# Altium schematic symbol library TI Stellaris.SchLib: 293 symbols (part 1 of 7)
Pins are listed as number, name and electrical type; pins without a type are passive.

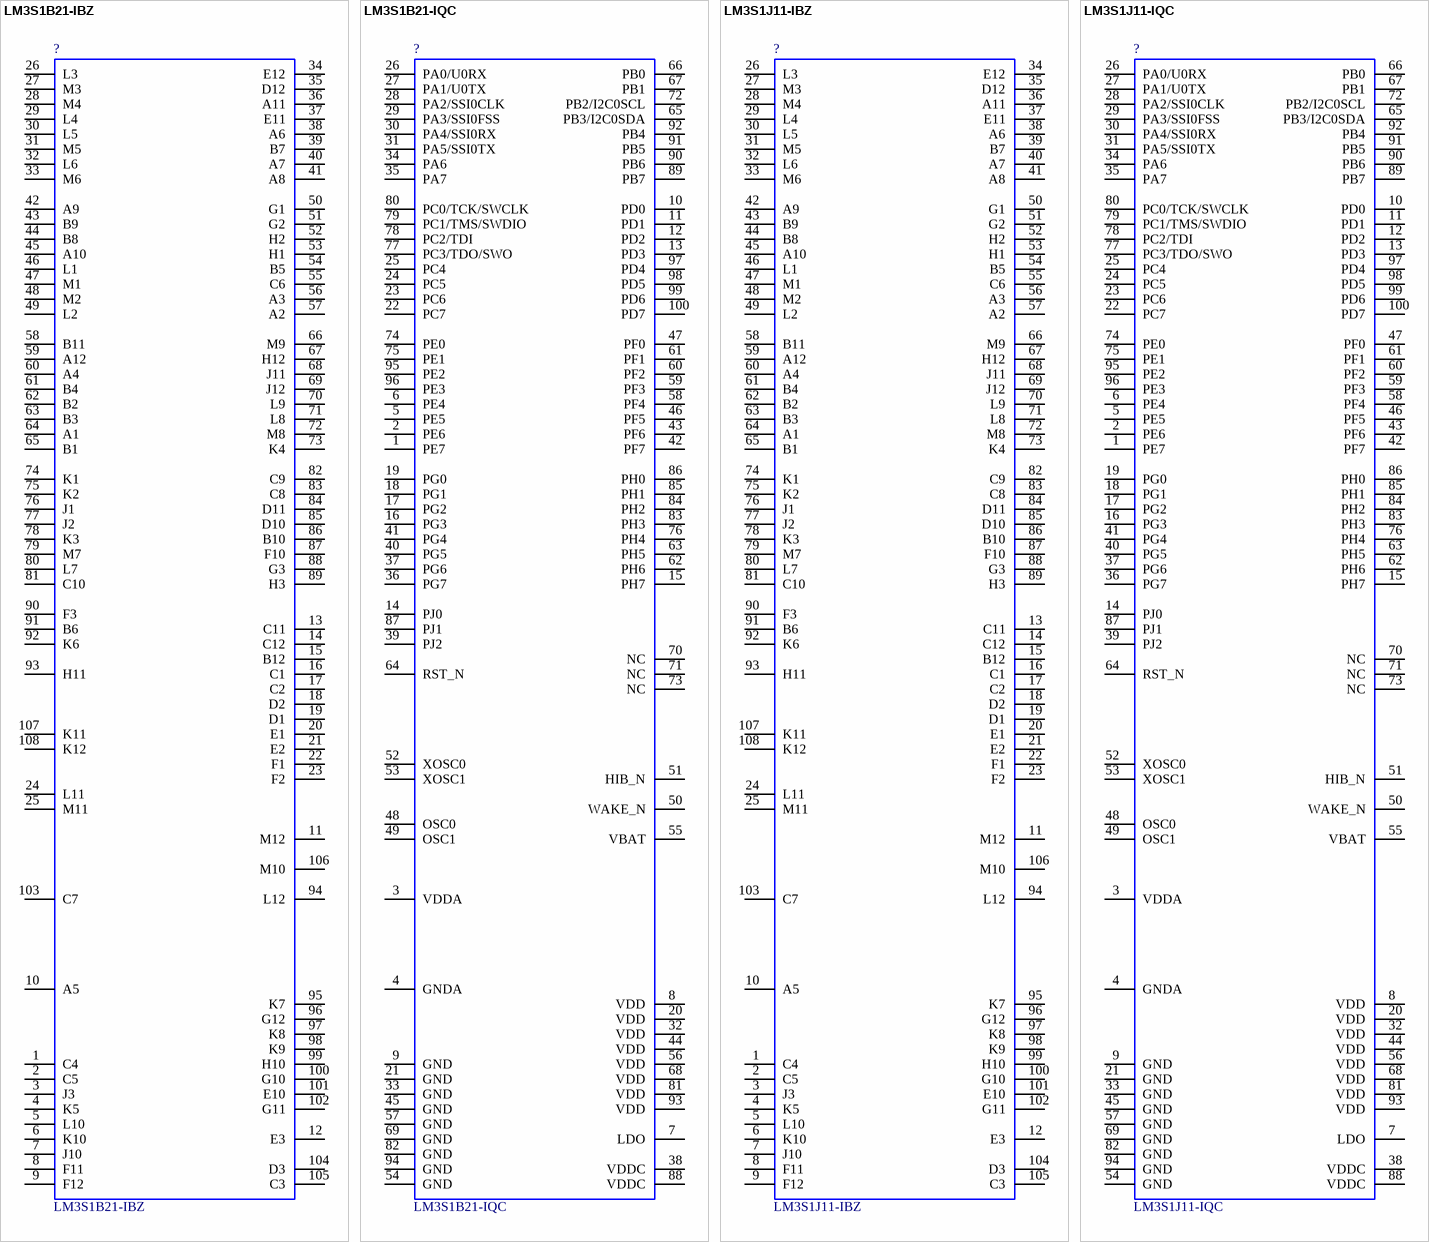
[diagram p0: symbols LM3S1B21-IBZ to LM3S1J11-IQC]

## LM3S1B21-IBZ
designator ?
Stellaris ARM Cortex-M3 Microcontroller; Manufacturer #1: Texas Instruments; Stellaris Class: Tempest; Part Number: LM3S1B21-IBZ
footprint BGA108C80P12X12_1000X1000X150
pins: 1 C4, 2 C5, 3 J3, 4 K5, 5 L10, 6 K10, 7 J10, 8 F11, 9 F12, 10 A5, 11 M12, 12 E3, 13 C11, 14 C12, 15 B12, 16 C1, 17 C2, 18 D2, 19 D1, 20 E1, 21 E2, 22 F1, 23 F2, 24 L11, 25 M11, 26 L3, 27 M3, 28 M4, 29 L4, 30 L5, 31 M5, 32 L6, 33 M6, 34 E12, 35 D12, 36 A11, 37 E11, 38 A6, 39 B7, 40 A7, 41 A8, 42 A9, 43 B9, 44 B8, 45 A10, 46 L1, 47 M1, 48 M2, 49 L2, 50 G1, 51 G2, 52 H2, 53 H1, 54 B5, 55 C6, 56 A3, 57 A2, 58 B11, 59 A12, 60 A4, 61 B4, 62 B2, 63 B3, 64 A1, 65 B1, 66 M9, 67 H12, 68 J11, 69 J12, 70 L9, 71 L8, 72 M8, 73 K4, 74 K1, 75 K2, 76 J1, 77 J2, 78 K3, 79 M7, 80 L7, 81 C10, 82 C9, 83 C8, 84 D11, 85 D10, 86 B10, 87 F10, 88 G3, 89 H3, 90 F3, 91 B6, 92 K6, 93 H11, 94 L12, 95 K7, 96 G12, 97 K8, 98 K9, 99 H10, 100 G10, 101 E10, 102 G11, 103 C7, 104 D3, 105 C3, 106 M10, 107 K11, 108 K12

## LM3S1B21-IQC
designator ?
Stellaris ARM Cortex-M3 Microcontroller; Manufacturer #1: Texas Instruments; Stellaris Class: Tempest; Part Number: LM3S1B21-IQC
footprint PCBNULL
pins: 1 PE7, 2 PE6, 3 VDDA, 4 GNDA, 5 PE5, 6 PE4, 7 LDO, 8 VDD, 9 GND, 10 PD0, 11 PD1, 12 PD2, 13 PD3, 14 PJ0, 15 PH7, 16 PG3, 17 PG2, 18 PG1, 19 PG0, 20 VDD, 21 GND, 22 PC7, 23 PC6, 24 PC5, 25 PC4, 26 PA0/U0RX, 27 PA1/U0TX, 28 PA2/SSI0CLK, 29 PA3/SSI0FSS, 30 PA4/SSI0RX, 31 PA5/SSI0TX, 32 VDD, 33 GND, 34 PA6, 35 PA7, 36 PG7, 37 PG6, 38 VDDC, 39 PJ2, 40 PG5, 41 PG4, 42 PF7, 43 PF6, 44 VDD, 45 GND, 46 PF5, 47 PF0, 48 OSC0, 49 OSC1, 50 WAKE_N, 51 HIB_N, 52 XOSC0, 53 XOSC1, 54 GND, 55 VBAT, 56 VDD, 57 GND, 58 PF4, 59 PF3, 60 PF2, 61 PF1, 62 PH6, 63 PH5, 64 RST_N, 65 PB3/I2C0SDA, 66 PB0, 67 PB1, 68 VDD, 69 GND, 70 NC, 71 NC, 72 PB2/I2C0SCL, 73 NC, 74 PE0, 75 PE1, 76 PH4, 77 PC3/TDO/SWO, 78 PC2/TDI, 79 PC1/TMS/SWDIO, 80 PC0/TCK/SWCLK, 81 VDD, 82 GND, 83 PH3, 84 PH2, 85 PH1, 86 PH0, 87 PJ1, 88 VDDC, 89 PB7, 90 PB6, 91 PB5, 92 PB4, 93 VDD, 94 GND, 95 PE2, 96 PE3, 97 PD4, 98 PD5, 99 PD6, 100 PD7

## LM3S1J11-IBZ
designator ?
Stellaris ARM Cortex-M3 Microcontroller; Manufacturer #1: Texas Instruments; Stellaris Class: Tempest; Part Number: LM3S1J11-IBZ
footprint BGA108C80P12X12_1000X1000X150
pins: 1 C4, 2 C5, 3 J3, 4 K5, 5 L10, 6 K10, 7 J10, 8 F11, 9 F12, 10 A5, 11 M12, 12 E3, 13 C11, 14 C12, 15 B12, 16 C1, 17 C2, 18 D2, 19 D1, 20 E1, 21 E2, 22 F1, 23 F2, 24 L11, 25 M11, 26 L3, 27 M3, 28 M4, 29 L4, 30 L5, 31 M5, 32 L6, 33 M6, 34 E12, 35 D12, 36 A11, 37 E11, 38 A6, 39 B7, 40 A7, 41 A8, 42 A9, 43 B9, 44 B8, 45 A10, 46 L1, 47 M1, 48 M2, 49 L2, 50 G1, 51 G2, 52 H2, 53 H1, 54 B5, 55 C6, 56 A3, 57 A2, 58 B11, 59 A12, 60 A4, 61 B4, 62 B2, 63 B3, 64 A1, 65 B1, 66 M9, 67 H12, 68 J11, 69 J12, 70 L9, 71 L8, 72 M8, 73 K4, 74 K1, 75 K2, 76 J1, 77 J2, 78 K3, 79 M7, 80 L7, 81 C10, 82 C9, 83 C8, 84 D11, 85 D10, 86 B10, 87 F10, 88 G3, 89 H3, 90 F3, 91 B6, 92 K6, 93 H11, 94 L12, 95 K7, 96 G12, 97 K8, 98 K9, 99 H10, 100 G10, 101 E10, 102 G11, 103 C7, 104 D3, 105 C3, 106 M10, 107 K11, 108 K12

## LM3S1J11-IQC
designator ?
Stellaris ARM Cortex-M3 Microcontroller; Manufacturer #1: Texas Instruments; Stellaris Class: Tempest; Part Number: LM3S1J11-IQC
footprint QFP50P1600X1600X160-100N
pins: 1 PE7, 2 PE6, 3 VDDA, 4 GNDA, 5 PE5, 6 PE4, 7 LDO, 8 VDD, 9 GND, 10 PD0, 11 PD1, 12 PD2, 13 PD3, 14 PJ0, 15 PH7, 16 PG3, 17 PG2, 18 PG1, 19 PG0, 20 VDD, 21 GND, 22 PC7, 23 PC6, 24 PC5, 25 PC4, 26 PA0/U0RX, 27 PA1/U0TX, 28 PA2/SSI0CLK, 29 PA3/SSI0FSS, 30 PA4/SSI0RX, 31 PA5/SSI0TX, 32 VDD, 33 GND, 34 PA6, 35 PA7, 36 PG7, 37 PG6, 38 VDDC, 39 PJ2, 40 PG5, 41 PG4, 42 PF7, 43 PF6, 44 VDD, 45 GND, 46 PF5, 47 PF0, 48 OSC0, 49 OSC1, 50 WAKE_N, 51 HIB_N, 52 XOSC0, 53 XOSC1, 54 GND, 55 VBAT, 56 VDD, 57 GND, 58 PF4, 59 PF3, 60 PF2, 61 PF1, 62 PH6, 63 PH5, 64 RST_N, 65 PB3/I2C0SDA, 66 PB0, 67 PB1, 68 VDD, 69 GND, 70 NC, 71 NC, 72 PB2/I2C0SCL, 73 NC, 74 PE0, 75 PE1, 76 PH4, 77 PC3/TDO/SWO, 78 PC2/TDI, 79 PC1/TMS/SWDIO, 80 PC0/TCK/SWCLK, 81 VDD, 82 GND, 83 PH3, 84 PH2, 85 PH1, 86 PH0, 87 PJ1, 88 VDDC, 89 PB7, 90 PB6, 91 PB5, 92 PB4, 93 VDD, 94 GND, 95 PE2, 96 PE3, 97 PD4, 98 PD5, 99 PD6, 100 PD7

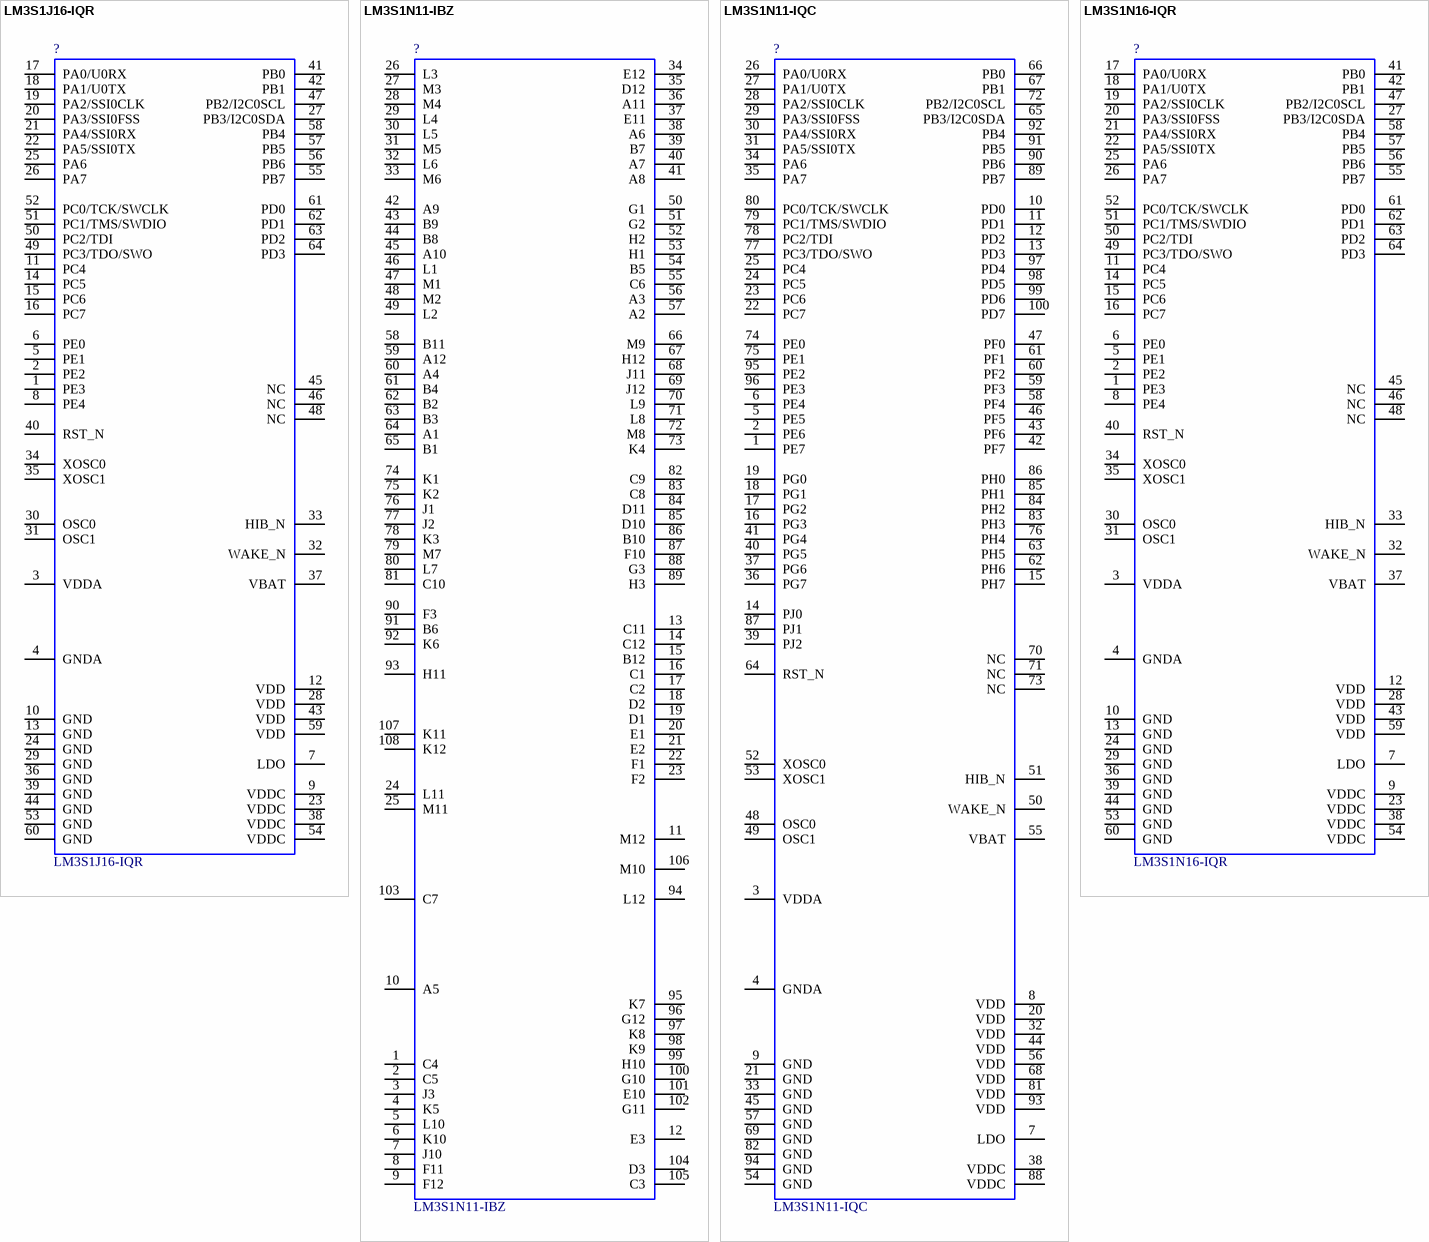
[diagram p1: symbols LM3S1J16-IQR to LM3S1N16-IQR]

## LM3S1J16-IQR
designator ?
Stellaris ARM Cortex-M3 Microcontroller; Manufacturer #1: Texas Instruments; Stellaris Class: Tempest; Part Number: LM3S1J16-IQR
footprint QFP50P1200X1200X160-64N
pins: 1 PE3, 2 PE2, 3 VDDA, 4 GNDA, 5 PE1, 6 PE0, 7 LDO, 8 PE4, 9 VDDC, 10 GND, 11 PC4, 12 VDD, 13 GND, 14 PC5 (power), 15 PC6, 16 PC7, 17 PA0/U0RX, 18 PA1/U0TX, 19 PA2/SSI0CLK, 20 PA3/SSI0FSS, 21 PA4/SSI0RX, 22 PA5/SSI0TX, 23 VDDC, 24 GND, 25 PA6, 26 PA7, 27 PB3/I2C0SDA, 28 VDD, 29 GND, 30 OSC0, 31 OSC1, 32 WAKE_N, 33 HIB_N, 34 XOSC0, 35 XOSC1, 36 GND, 37 VBAT, 38 VDDC, 39 GND, 40 RST_N, 41 PB0, 42 PB1, 43 VDD, 44 GND, 45 NC, 46 NC, 47 PB2/I2C0SCL, 48 NC, 49 PC3/TDO/SWO, 50 PC2/TDI, 51 PC1/TMS/SWDIO, 52 PC0/TCK/SWCLK, 53 GND, 54 VDDC, 55 PB7, 56 PB6, 57 PB5, 58 PB4, 59 VDD, 60 GND, 61 PD0, 62 PD1, 63 PD2, 64 PD3

## LM3S1N11-IBZ
designator ?
Stellaris ARM Cortex-M3 Microcontroller; Manufacturer #1: Texas Instruments; Stellaris Class: Tempest; Part Number: LM3S1N11-IBZ
footprint BGA108C80P12X12_1000X1000X150
pins: 1 C4, 2 C5, 3 J3, 4 K5, 5 L10, 6 K10, 7 J10, 8 F11, 9 F12, 10 A5, 11 M12, 12 E3, 13 C11, 14 C12, 15 B12, 16 C1, 17 C2, 18 D2, 19 D1, 20 E1, 21 E2, 22 F1, 23 F2, 24 L11, 25 M11, 26 L3, 27 M3, 28 M4, 29 L4, 30 L5, 31 M5, 32 L6, 33 M6, 34 E12, 35 D12, 36 A11, 37 E11, 38 A6, 39 B7, 40 A7, 41 A8, 42 A9, 43 B9, 44 B8, 45 A10, 46 L1, 47 M1, 48 M2, 49 L2, 50 G1, 51 G2, 52 H2, 53 H1, 54 B5, 55 C6, 56 A3, 57 A2, 58 B11, 59 A12, 60 A4, 61 B4, 62 B2, 63 B3, 64 A1, 65 B1, 66 M9, 67 H12, 68 J11, 69 J12, 70 L9, 71 L8, 72 M8, 73 K4, 74 K1, 75 K2, 76 J1, 77 J2, 78 K3, 79 M7, 80 L7, 81 C10, 82 C9, 83 C8, 84 D11, 85 D10, 86 B10, 87 F10, 88 G3, 89 H3, 90 F3, 91 B6, 92 K6, 93 H11, 94 L12, 95 K7, 96 G12, 97 K8, 98 K9, 99 H10, 100 G10, 101 E10, 102 G11, 103 C7, 104 D3, 105 C3, 106 M10, 107 K11, 108 K12

## LM3S1N11-IQC
designator ?
Stellaris ARM Cortex-M3 Microcontroller; Manufacturer #1: Texas Instruments; Stellaris Class: Tempest; Part Number: LM3S1N11-IQC
footprint QFP50P1600X1600X160-100N
pins: 1 PE7, 2 PE6, 3 VDDA, 4 GNDA, 5 PE5, 6 PE4, 7 LDO, 8 VDD, 9 GND, 10 PD0, 11 PD1, 12 PD2, 13 PD3, 14 PJ0, 15 PH7, 16 PG3, 17 PG2, 18 PG1, 19 PG0, 20 VDD, 21 GND, 22 PC7, 23 PC6, 24 PC5, 25 PC4, 26 PA0/U0RX, 27 PA1/U0TX, 28 PA2/SSI0CLK, 29 PA3/SSI0FSS, 30 PA4/SSI0RX, 31 PA5/SSI0TX, 32 VDD, 33 GND, 34 PA6, 35 PA7, 36 PG7, 37 PG6, 38 VDDC, 39 PJ2, 40 PG5, 41 PG4, 42 PF7, 43 PF6, 44 VDD, 45 GND, 46 PF5, 47 PF0, 48 OSC0, 49 OSC1, 50 WAKE_N, 51 HIB_N, 52 XOSC0, 53 XOSC1, 54 GND, 55 VBAT, 56 VDD, 57 GND, 58 PF4, 59 PF3, 60 PF2, 61 PF1, 62 PH6, 63 PH5, 64 RST_N, 65 PB3/I2C0SDA, 66 PB0, 67 PB1, 68 VDD, 69 GND, 70 NC, 71 NC, 72 PB2/I2C0SCL, 73 NC, 74 PE0, 75 PE1, 76 PH4, 77 PC3/TDO/SWO, 78 PC2/TDI, 79 PC1/TMS/SWDIO, 80 PC0/TCK/SWCLK, 81 VDD, 82 GND, 83 PH3, 84 PH2, 85 PH1, 86 PH0, 87 PJ1, 88 VDDC, 89 PB7, 90 PB6, 91 PB5, 92 PB4, 93 VDD, 94 GND, 95 PE2, 96 PE3, 97 PD4, 98 PD5, 99 PD6, 100 PD7

## LM3S1N16-IQR
designator ?
Stellaris ARM Cortex-M3 Microcontroller; Manufacturer #1: Texas Instruments; Stellaris Class: Tempest; Part Number: LM3S1N16-IQR
footprint QFP50P1200X1200X160-64N
pins: 1 PE3, 2 PE2, 3 VDDA, 4 GNDA, 5 PE1, 6 PE0, 7 LDO, 8 PE4, 9 VDDC, 10 GND, 11 PC4, 12 VDD, 13 GND, 14 PC5 (power), 15 PC6, 16 PC7, 17 PA0/U0RX, 18 PA1/U0TX, 19 PA2/SSI0CLK, 20 PA3/SSI0FSS, 21 PA4/SSI0RX, 22 PA5/SSI0TX, 23 VDDC, 24 GND, 25 PA6, 26 PA7, 27 PB3/I2C0SDA, 28 VDD, 29 GND, 30 OSC0, 31 OSC1, 32 WAKE_N, 33 HIB_N, 34 XOSC0, 35 XOSC1, 36 GND, 37 VBAT, 38 VDDC, 39 GND, 40 RST_N, 41 PB0, 42 PB1, 43 VDD, 44 GND, 45 NC, 46 NC, 47 PB2/I2C0SCL, 48 NC, 49 PC3/TDO/SWO, 50 PC2/TDI, 51 PC1/TMS/SWDIO, 52 PC0/TCK/SWCLK, 53 GND, 54 VDDC, 55 PB7, 56 PB6, 57 PB5, 58 PB4, 59 VDD, 60 GND, 61 PD0, 62 PD1, 63 PD2, 64 PD3

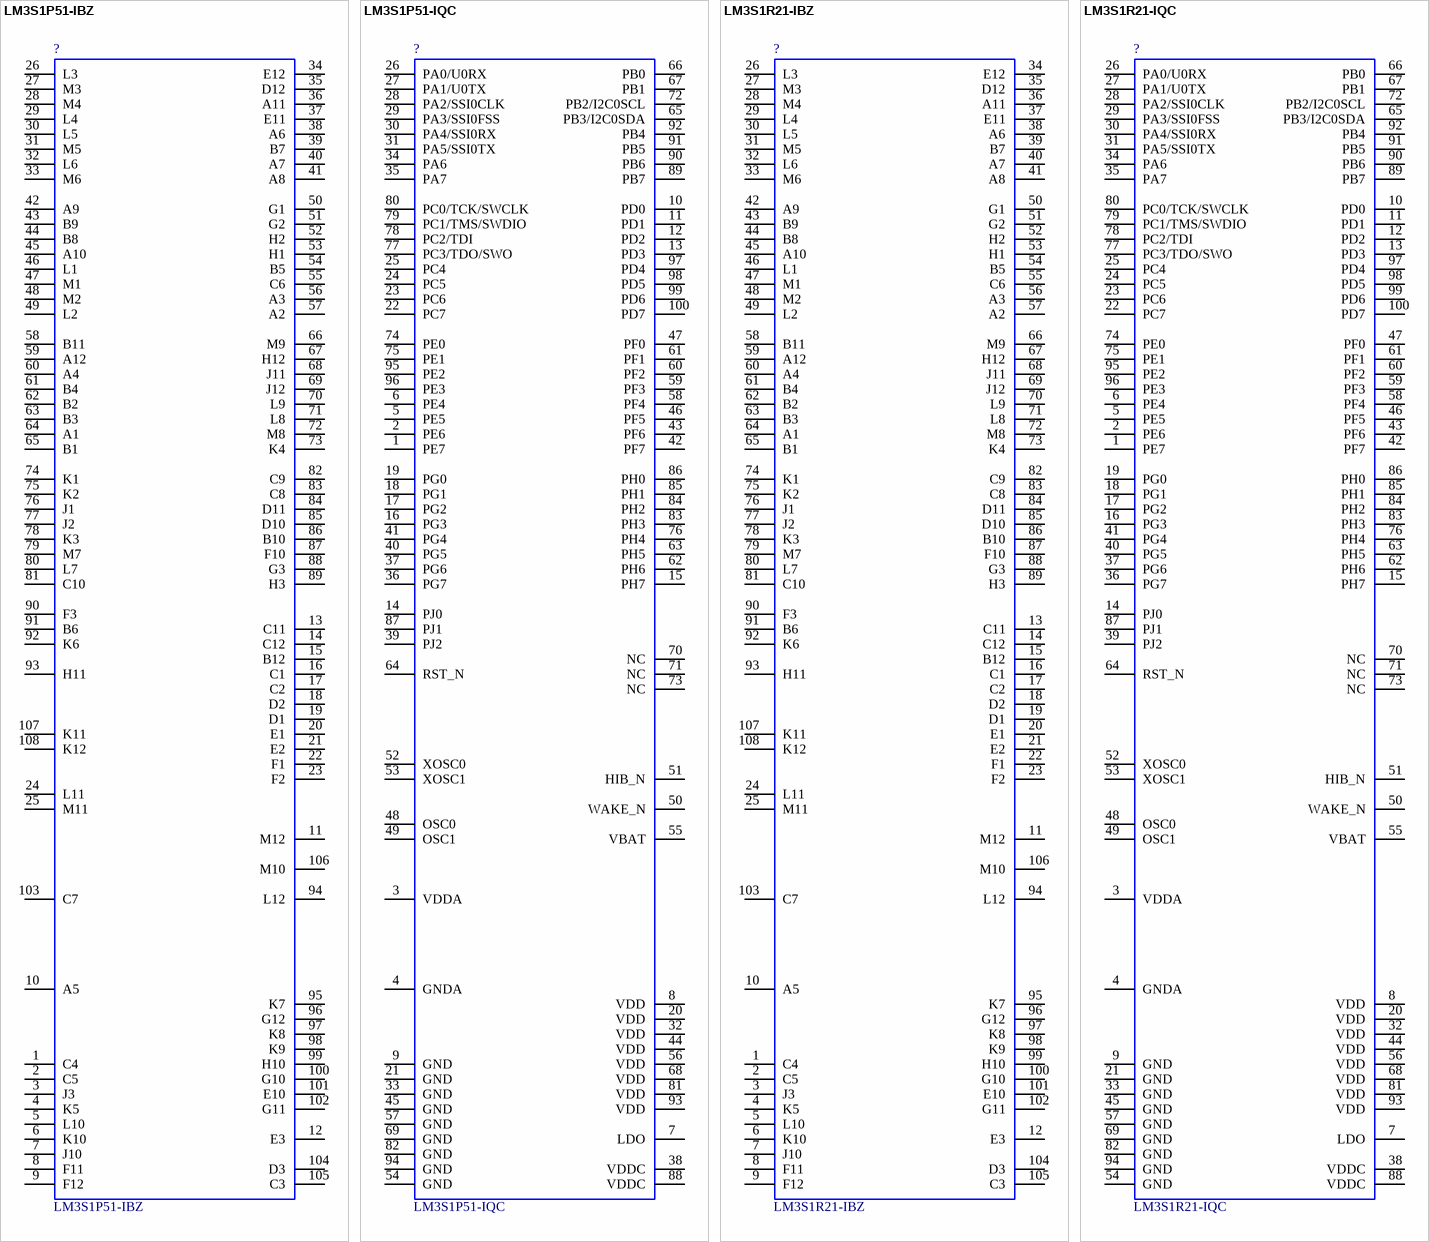
[diagram p2: symbols LM3S1P51-IBZ to LM3S1R21-IQC]

## LM3S1P51-IBZ
designator ?
Stellaris ARM Cortex-M3 Microcontroller; Manufacturer #1: Texas Instruments; Stellaris Class: Tempest; Part Number: LM3S1P51-IBZ
footprint BGA108C80P12X12_1000X1000X150
pins: 1 C4, 2 C5, 3 J3, 4 K5, 5 L10, 6 K10, 7 J10, 8 F11, 9 F12, 10 A5, 11 M12, 12 E3, 13 C11, 14 C12, 15 B12, 16 C1, 17 C2, 18 D2, 19 D1, 20 E1, 21 E2, 22 F1, 23 F2, 24 L11, 25 M11, 26 L3, 27 M3, 28 M4, 29 L4, 30 L5, 31 M5, 32 L6, 33 M6, 34 E12, 35 D12, 36 A11, 37 E11, 38 A6, 39 B7, 40 A7, 41 A8, 42 A9, 43 B9, 44 B8, 45 A10, 46 L1, 47 M1, 48 M2, 49 L2, 50 G1, 51 G2, 52 H2, 53 H1, 54 B5, 55 C6, 56 A3, 57 A2, 58 B11, 59 A12, 60 A4, 61 B4, 62 B2, 63 B3, 64 A1, 65 B1, 66 M9, 67 H12, 68 J11, 69 J12, 70 L9, 71 L8, 72 M8, 73 K4, 74 K1, 75 K2, 76 J1, 77 J2, 78 K3, 79 M7, 80 L7, 81 C10, 82 C9, 83 C8, 84 D11, 85 D10, 86 B10, 87 F10, 88 G3, 89 H3, 90 F3, 91 B6, 92 K6, 93 H11, 94 L12, 95 K7, 96 G12, 97 K8, 98 K9, 99 H10, 100 G10, 101 E10, 102 G11, 103 C7, 104 D3, 105 C3, 106 M10, 107 K11, 108 K12

## LM3S1P51-IQC
designator ?
Stellaris ARM Cortex-M3 Microcontroller; Manufacturer #1: Texas Instruments; Stellaris Class: Tempest; Part Number: LM3S1P51-IQC
footprint QFP50P1600X1600X160-100N
pins: 1 PE7, 2 PE6, 3 VDDA, 4 GNDA, 5 PE5, 6 PE4, 7 LDO, 8 VDD, 9 GND, 10 PD0, 11 PD1, 12 PD2, 13 PD3, 14 PJ0, 15 PH7, 16 PG3, 17 PG2, 18 PG1, 19 PG0, 20 VDD, 21 GND, 22 PC7, 23 PC6, 24 PC5, 25 PC4, 26 PA0/U0RX, 27 PA1/U0TX, 28 PA2/SSI0CLK, 29 PA3/SSI0FSS, 30 PA4/SSI0RX, 31 PA5/SSI0TX, 32 VDD, 33 GND, 34 PA6, 35 PA7, 36 PG7, 37 PG6, 38 VDDC, 39 PJ2, 40 PG5, 41 PG4, 42 PF7, 43 PF6, 44 VDD, 45 GND, 46 PF5, 47 PF0, 48 OSC0, 49 OSC1, 50 WAKE_N, 51 HIB_N, 52 XOSC0, 53 XOSC1, 54 GND, 55 VBAT, 56 VDD, 57 GND, 58 PF4, 59 PF3, 60 PF2, 61 PF1, 62 PH6, 63 PH5, 64 RST_N, 65 PB3/I2C0SDA, 66 PB0, 67 PB1, 68 VDD, 69 GND, 70 NC, 71 NC, 72 PB2/I2C0SCL, 73 NC, 74 PE0, 75 PE1, 76 PH4, 77 PC3/TDO/SWO, 78 PC2/TDI, 79 PC1/TMS/SWDIO, 80 PC0/TCK/SWCLK, 81 VDD, 82 GND, 83 PH3, 84 PH2, 85 PH1, 86 PH0, 87 PJ1, 88 VDDC, 89 PB7, 90 PB6, 91 PB5, 92 PB4, 93 VDD, 94 GND, 95 PE2, 96 PE3, 97 PD4, 98 PD5, 99 PD6, 100 PD7

## LM3S1R21-IBZ
designator ?
Stellaris ARM Cortex-M3 Microcontroller; Manufacturer #1: Texas Instruments; Stellaris Class: Tempest; Part Number: LM3S1R21-IBZ
footprint BGA108C80P12X12_1000X1000X150
pins: 1 C4, 2 C5, 3 J3, 4 K5, 5 L10, 6 K10, 7 J10, 8 F11, 9 F12, 10 A5, 11 M12, 12 E3, 13 C11, 14 C12, 15 B12, 16 C1, 17 C2, 18 D2, 19 D1, 20 E1, 21 E2, 22 F1, 23 F2, 24 L11, 25 M11, 26 L3, 27 M3, 28 M4, 29 L4, 30 L5, 31 M5, 32 L6, 33 M6, 34 E12, 35 D12, 36 A11, 37 E11, 38 A6, 39 B7, 40 A7, 41 A8, 42 A9, 43 B9, 44 B8, 45 A10, 46 L1, 47 M1, 48 M2, 49 L2, 50 G1, 51 G2, 52 H2, 53 H1, 54 B5, 55 C6, 56 A3, 57 A2, 58 B11, 59 A12, 60 A4, 61 B4, 62 B2, 63 B3, 64 A1, 65 B1, 66 M9, 67 H12, 68 J11, 69 J12, 70 L9, 71 L8, 72 M8, 73 K4, 74 K1, 75 K2, 76 J1, 77 J2, 78 K3, 79 M7, 80 L7, 81 C10, 82 C9, 83 C8, 84 D11, 85 D10, 86 B10, 87 F10, 88 G3, 89 H3, 90 F3, 91 B6, 92 K6, 93 H11, 94 L12, 95 K7, 96 G12, 97 K8, 98 K9, 99 H10, 100 G10, 101 E10, 102 G11, 103 C7, 104 D3, 105 C3, 106 M10, 107 K11, 108 K12

## LM3S1R21-IQC
designator ?
Stellaris ARM Cortex-M3 Microcontroller; Manufacturer #1: Texas Instruments; Stellaris Class: Tempest; Part Number: LM3S1R21-IQC
footprint QFP50P1600X1600X160-100N
pins: 1 PE7, 2 PE6, 3 VDDA, 4 GNDA, 5 PE5, 6 PE4, 7 LDO, 8 VDD, 9 GND, 10 PD0, 11 PD1, 12 PD2, 13 PD3, 14 PJ0, 15 PH7, 16 PG3, 17 PG2, 18 PG1, 19 PG0, 20 VDD, 21 GND, 22 PC7, 23 PC6, 24 PC5, 25 PC4, 26 PA0/U0RX, 27 PA1/U0TX, 28 PA2/SSI0CLK, 29 PA3/SSI0FSS, 30 PA4/SSI0RX, 31 PA5/SSI0TX, 32 VDD, 33 GND, 34 PA6, 35 PA7, 36 PG7, 37 PG6, 38 VDDC, 39 PJ2, 40 PG5, 41 PG4, 42 PF7, 43 PF6, 44 VDD, 45 GND, 46 PF5, 47 PF0, 48 OSC0, 49 OSC1, 50 WAKE_N, 51 HIB_N, 52 XOSC0, 53 XOSC1, 54 GND, 55 VBAT, 56 VDD, 57 GND, 58 PF4, 59 PF3, 60 PF2, 61 PF1, 62 PH6, 63 PH5, 64 RST_N, 65 PB3/I2C0SDA, 66 PB0, 67 PB1, 68 VDD, 69 GND, 70 NC, 71 NC, 72 PB2/I2C0SCL, 73 NC, 74 PE0, 75 PE1, 76 PH4, 77 PC3/TDO/SWO, 78 PC2/TDI, 79 PC1/TMS/SWDIO, 80 PC0/TCK/SWCLK, 81 VDD, 82 GND, 83 PH3, 84 PH2, 85 PH1, 86 PH0, 87 PJ1, 88 VDDC, 89 PB7, 90 PB6, 91 PB5, 92 PB4, 93 VDD, 94 GND, 95 PE2, 96 PE3, 97 PD4, 98 PD5, 99 PD6, 100 PD7

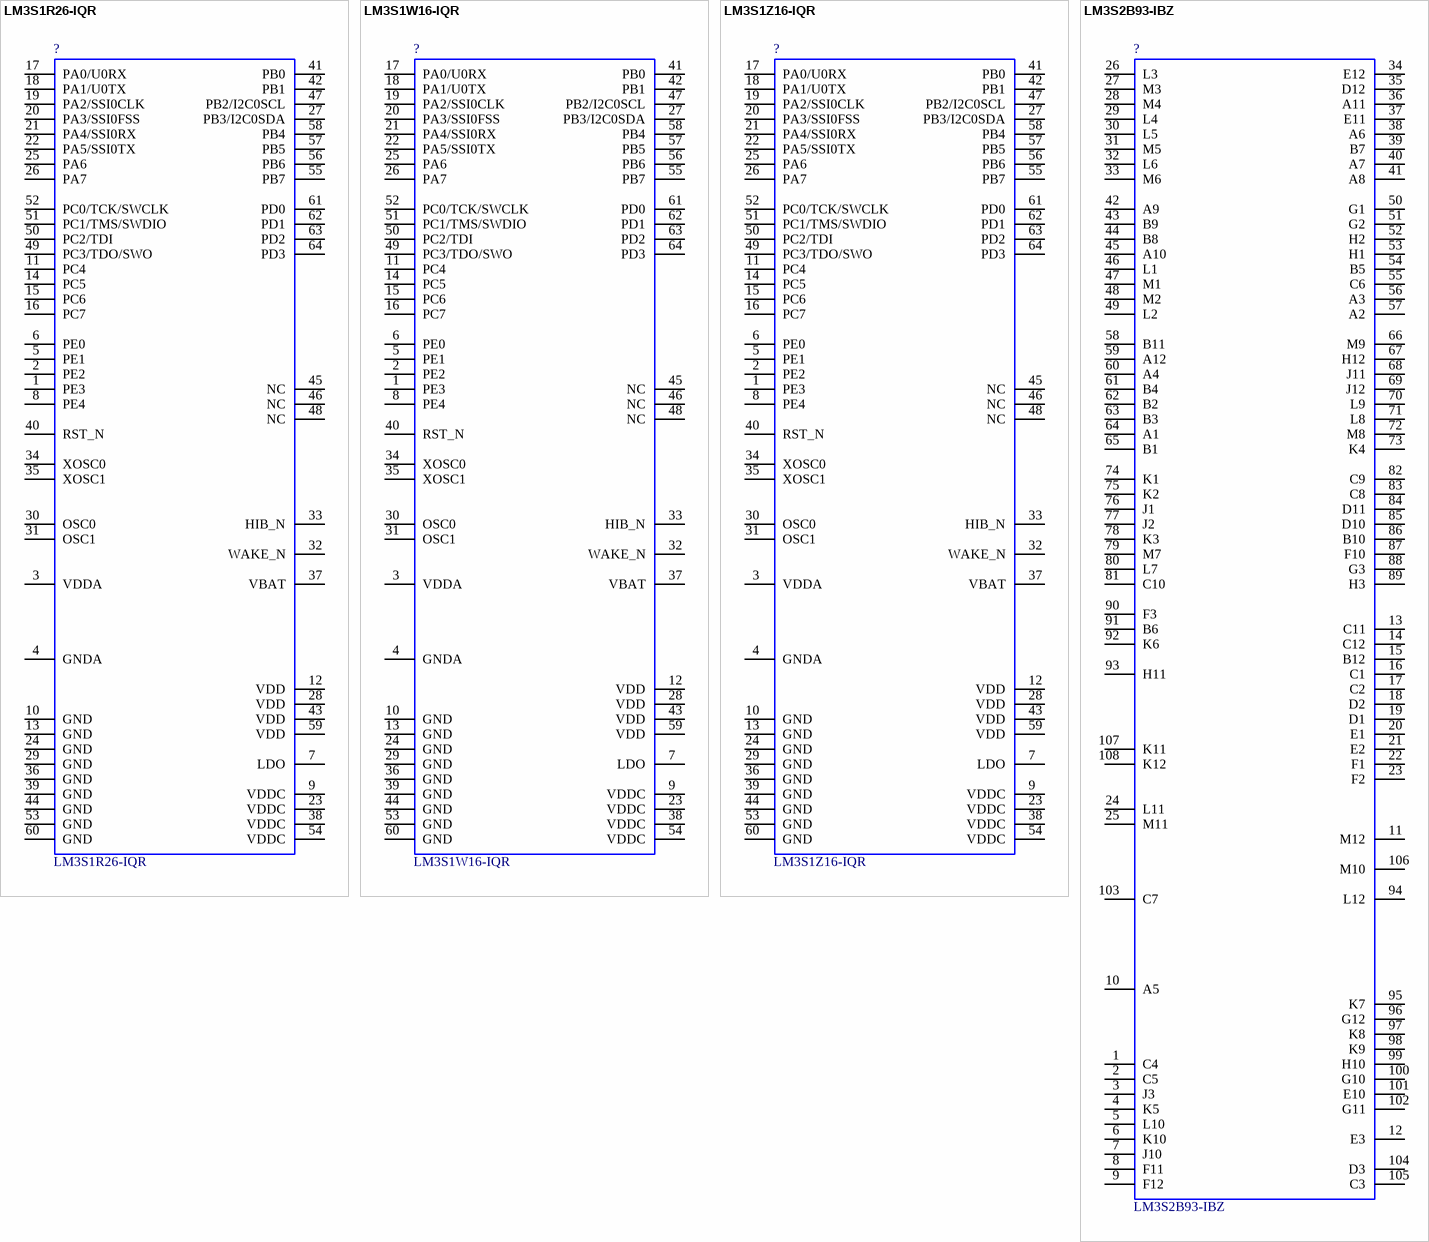
[diagram p3: symbols LM3S1R26-IQR to LM3S2B93-IBZ]

## LM3S1R26-IQR
designator ?
Stellaris ARM Cortex-M3 Microcontroller; Manufacturer #1: Texas Instruments; Stellaris Class: Tempest; Part Number: LM3S1R26-IQR
footprint PCBNULL
pins: 1 PE3, 2 PE2, 3 VDDA, 4 GNDA, 5 PE1, 6 PE0, 7 LDO, 8 PE4, 9 VDDC, 10 GND, 11 PC4, 12 VDD, 13 GND, 14 PC5 (power), 15 PC6, 16 PC7, 17 PA0/U0RX, 18 PA1/U0TX, 19 PA2/SSI0CLK, 20 PA3/SSI0FSS, 21 PA4/SSI0RX, 22 PA5/SSI0TX, 23 VDDC, 24 GND, 25 PA6, 26 PA7, 27 PB3/I2C0SDA, 28 VDD, 29 GND, 30 OSC0, 31 OSC1, 32 WAKE_N, 33 HIB_N, 34 XOSC0, 35 XOSC1, 36 GND, 37 VBAT, 38 VDDC, 39 GND, 40 RST_N, 41 PB0, 42 PB1, 43 VDD, 44 GND, 45 NC, 46 NC, 47 PB2/I2C0SCL, 48 NC, 49 PC3/TDO/SWO, 50 PC2/TDI, 51 PC1/TMS/SWDIO, 52 PC0/TCK/SWCLK, 53 GND, 54 VDDC, 55 PB7, 56 PB6, 57 PB5, 58 PB4, 59 VDD, 60 GND, 61 PD0, 62 PD1, 63 PD2, 64 PD3

## LM3S1W16-IQR
designator ?
Stellaris ARM Cortex-M3 Microcontroller; Manufacturer #1: Texas Instruments; Stellaris Class: Tempest; Part Number: LM3S1W16-IQR
footprint QFP50P1200X1200X160-64N
pins: 1 PE3, 2 PE2, 3 VDDA, 4 GNDA, 5 PE1, 6 PE0, 7 LDO, 8 PE4, 9 VDDC, 10 GND, 11 PC4, 12 VDD, 13 GND, 14 PC5 (power), 15 PC6, 16 PC7, 17 PA0/U0RX, 18 PA1/U0TX, 19 PA2/SSI0CLK, 20 PA3/SSI0FSS, 21 PA4/SSI0RX, 22 PA5/SSI0TX, 23 VDDC, 24 GND, 25 PA6, 26 PA7, 27 PB3/I2C0SDA, 28 VDD, 29 GND, 30 OSC0, 31 OSC1, 32 WAKE_N, 33 HIB_N, 34 XOSC0, 35 XOSC1, 36 GND, 37 VBAT, 38 VDDC, 39 GND, 40 RST_N, 41 PB0, 42 PB1, 43 VDD, 44 GND, 45 NC, 46 NC, 47 PB2/I2C0SCL, 48 NC, 49 PC3/TDO/SWO, 50 PC2/TDI, 51 PC1/TMS/SWDIO, 52 PC0/TCK/SWCLK, 53 GND, 54 VDDC, 55 PB7, 56 PB6, 57 PB5, 58 PB4, 59 VDD, 60 GND, 61 PD0, 62 PD1, 63 PD2, 64 PD3

## LM3S1Z16-IQR
designator ?
Stellaris ARM Cortex-M3 Microcontroller; Manufacturer #1: Texas Instruments; Stellaris Class: Tempest; Part Number: LM3S1Z16-IQR
footprint QFP50P1200X1200X160-64N
pins: 1 PE3, 2 PE2, 3 VDDA, 4 GNDA, 5 PE1, 6 PE0, 7 LDO, 8 PE4, 9 VDDC, 10 GND, 11 PC4, 12 VDD, 13 GND, 14 PC5 (power), 15 PC6, 16 PC7, 17 PA0/U0RX, 18 PA1/U0TX, 19 PA2/SSI0CLK, 20 PA3/SSI0FSS, 21 PA4/SSI0RX, 22 PA5/SSI0TX, 23 VDDC, 24 GND, 25 PA6, 26 PA7, 27 PB3/I2C0SDA, 28 VDD, 29 GND, 30 OSC0, 31 OSC1, 32 WAKE_N, 33 HIB_N, 34 XOSC0, 35 XOSC1, 36 GND, 37 VBAT, 38 VDDC, 39 GND, 40 RST_N, 41 PB0, 42 PB1, 43 VDD, 44 GND, 45 NC, 46 NC, 47 PB2/I2C0SCL, 48 NC, 49 PC3/TDO/SWO, 50 PC2/TDI, 51 PC1/TMS/SWDIO, 52 PC0/TCK/SWCLK, 53 GND, 54 VDDC, 55 PB7, 56 PB6, 57 PB5, 58 PB4, 59 VDD, 60 GND, 61 PD0, 62 PD1, 63 PD2, 64 PD3

## LM3S2B93-IBZ
designator ?
Stellaris ARM Cortex-M3 Microcontroller; Manufacturer #1: Texas Instruments; Stellaris Class: Tempest; Part Number: LM3S2B93-IBZ
footprint BGA108C80P12X12_1000X1000X150
pins: 1 C4, 2 C5, 3 J3, 4 K5, 5 L10, 6 K10, 7 J10, 8 F11, 9 F12, 10 A5, 11 M12, 12 E3, 13 C11, 14 C12, 15 B12, 16 C1, 17 C2, 18 D2, 19 D1, 20 E1, 21 E2, 22 F1, 23 F2, 24 L11, 25 M11, 26 L3, 27 M3, 28 M4, 29 L4, 30 L5, 31 M5, 32 L6, 33 M6, 34 E12, 35 D12, 36 A11, 37 E11, 38 A6, 39 B7, 40 A7, 41 A8, 42 A9, 43 B9, 44 B8, 45 A10, 46 L1, 47 M1, 48 M2, 49 L2, 50 G1, 51 G2, 52 H2, 53 H1, 54 B5, 55 C6, 56 A3, 57 A2, 58 B11, 59 A12, 60 A4, 61 B4, 62 B2, 63 B3, 64 A1, 65 B1, 66 M9, 67 H12, 68 J11, 69 J12, 70 L9, 71 L8, 72 M8, 73 K4, 74 K1, 75 K2, 76 J1, 77 J2, 78 K3, 79 M7, 80 L7, 81 C10, 82 C9, 83 C8, 84 D11, 85 D10, 86 B10, 87 F10, 88 G3, 89 H3, 90 F3, 91 B6, 92 K6, 93 H11, 94 L12, 95 K7, 96 G12, 97 K8, 98 K9, 99 H10, 100 G10, 101 E10, 102 G11, 103 C7, 104 D3, 105 C3, 106 M10, 107 K11, 108 K12

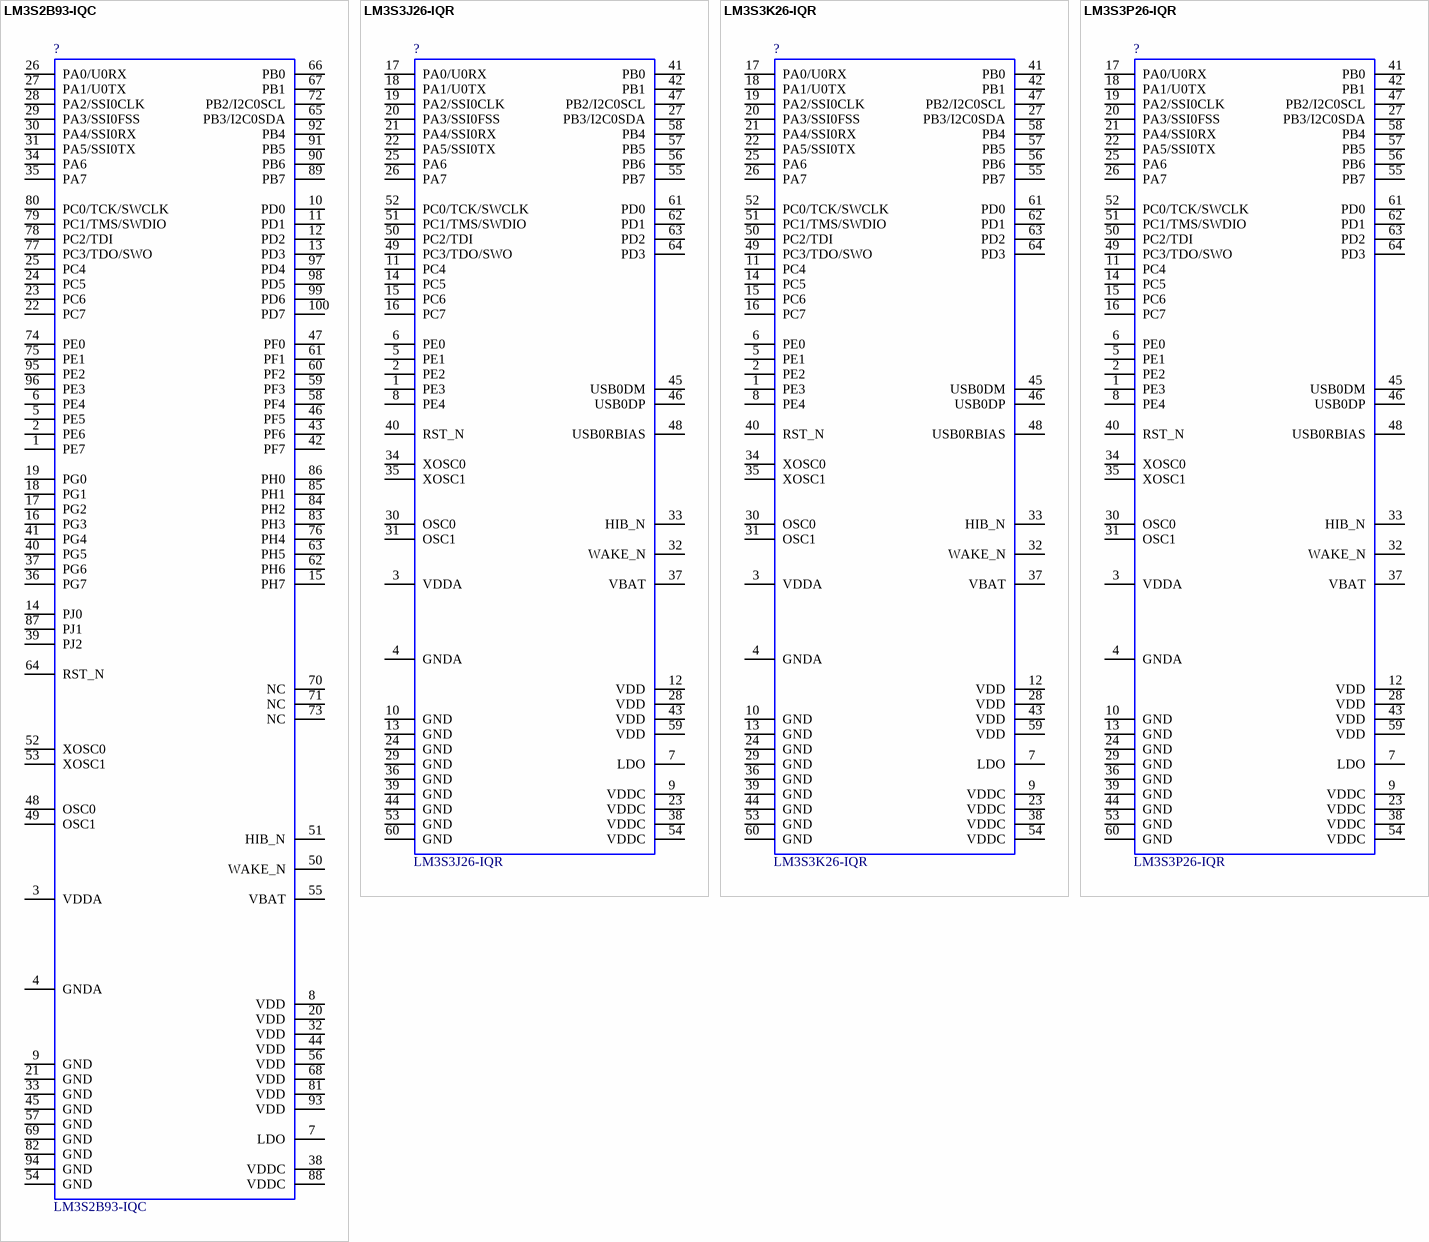
[diagram p4: symbols LM3S2B93-IQC to LM3S3P26-IQR]

## LM3S2B93-IQC
designator ?
Stellaris ARM Cortex-M3 Microcontroller; Manufacturer #1: Texas Instruments; Stellaris Class: Tempest; Part Number: LM3S2B93-IQC
footprint QFP50P1600X1600X160-100N
pins: 1 PE7, 2 PE6, 3 VDDA, 4 GNDA, 5 PE5, 6 PE4, 7 LDO, 8 VDD, 9 GND, 10 PD0, 11 PD1, 12 PD2, 13 PD3, 14 PJ0, 15 PH7, 16 PG3, 17 PG2, 18 PG1, 19 PG0, 20 VDD, 21 GND, 22 PC7, 23 PC6, 24 PC5, 25 PC4, 26 PA0/U0RX, 27 PA1/U0TX, 28 PA2/SSI0CLK, 29 PA3/SSI0FSS, 30 PA4/SSI0RX, 31 PA5/SSI0TX, 32 VDD, 33 GND, 34 PA6, 35 PA7, 36 PG7, 37 PG6, 38 VDDC, 39 PJ2, 40 PG5, 41 PG4, 42 PF7, 43 PF6, 44 VDD, 45 GND, 46 PF5, 47 PF0, 48 OSC0, 49 OSC1, 50 WAKE_N, 51 HIB_N, 52 XOSC0, 53 XOSC1, 54 GND, 55 VBAT, 56 VDD, 57 GND, 58 PF4, 59 PF3, 60 PF2, 61 PF1, 62 PH6, 63 PH5, 64 RST_N, 65 PB3/I2C0SDA, 66 PB0, 67 PB1, 68 VDD, 69 GND, 70 NC, 71 NC, 72 PB2/I2C0SCL, 73 NC, 74 PE0, 75 PE1, 76 PH4, 77 PC3/TDO/SWO, 78 PC2/TDI, 79 PC1/TMS/SWDIO, 80 PC0/TCK/SWCLK, 81 VDD, 82 GND, 83 PH3, 84 PH2, 85 PH1, 86 PH0, 87 PJ1, 88 VDDC, 89 PB7, 90 PB6, 91 PB5, 92 PB4, 93 VDD, 94 GND, 95 PE2, 96 PE3, 97 PD4, 98 PD5, 99 PD6, 100 PD7

## LM3S3J26-IQR
designator ?
Stellaris ARM Cortex-M3 Microcontroller; Manufacturer #1: Texas Instruments; Stellaris Class: Tempest; Part Number: LM3S3J26-IQR
footprint QFP50P1200X1200X160-64N
pins: 1 PE3, 2 PE2, 3 VDDA, 4 GNDA, 5 PE1, 6 PE0, 7 LDO, 8 PE4, 9 VDDC, 10 GND, 11 PC4, 12 VDD, 13 GND, 14 PC5, 15 PC6 (power), 16 PC7, 17 PA0/U0RX, 18 PA1/U0TX, 19 PA2/SSI0CLK, 20 PA3/SSI0FSS, 21 PA4/SSI0RX, 22 PA5/SSI0TX, 23 VDDC, 24 GND, 25 PA6, 26 PA7, 27 PB3/I2C0SDA, 28 VDD, 29 GND, 30 OSC0, 31 OSC1, 32 WAKE_N, 33 HIB_N, 34 XOSC0, 35 XOSC1, 36 GND, 37 VBAT, 38 VDDC, 39 GND, 40 RST_N, 41 PB0, 42 PB1, 43 VDD, 44 GND, 45 USB0DM, 46 USB0DP, 47 PB2/I2C0SCL, 48 USB0RBIAS, 49 PC3/TDO/SWO, 50 PC2/TDI, 51 PC1/TMS/SWDIO, 52 PC0/TCK/SWCLK, 53 GND, 54 VDDC, 55 PB7, 56 PB6, 57 PB5, 58 PB4, 59 VDD, 60 GND, 61 PD0, 62 PD1, 63 PD2, 64 PD3

## LM3S3K26-IQR
designator ?
Stellaris ARM Cortex-M3 Microcontroller; Manufacturer #1: Texas Instruments; Stellaris Class: Tempest; Part Number: LM3S3K26-IQR
footprint QFP50P1200X1200X160-64N
pins: 1 PE3, 2 PE2, 3 VDDA, 4 GNDA, 5 PE1, 6 PE0, 7 LDO, 8 PE4, 9 VDDC, 10 GND, 11 PC4, 12 VDD, 13 GND, 14 PC5, 15 PC6 (power), 16 PC7, 17 PA0/U0RX, 18 PA1/U0TX, 19 PA2/SSI0CLK, 20 PA3/SSI0FSS, 21 PA4/SSI0RX, 22 PA5/SSI0TX, 23 VDDC, 24 GND, 25 PA6, 26 PA7, 27 PB3/I2C0SDA, 28 VDD, 29 GND, 30 OSC0, 31 OSC1, 32 WAKE_N, 33 HIB_N, 34 XOSC0, 35 XOSC1, 36 GND, 37 VBAT, 38 VDDC, 39 GND, 40 RST_N, 41 PB0, 42 PB1, 43 VDD, 44 GND, 45 USB0DM, 46 USB0DP, 47 PB2/I2C0SCL, 48 USB0RBIAS, 49 PC3/TDO/SWO, 50 PC2/TDI, 51 PC1/TMS/SWDIO, 52 PC0/TCK/SWCLK, 53 GND, 54 VDDC, 55 PB7, 56 PB6, 57 PB5, 58 PB4, 59 VDD, 60 GND, 61 PD0, 62 PD1, 63 PD2, 64 PD3

## LM3S3P26-IQR
designator ?
Stellaris ARM Cortex-M3 Microcontroller; Manufacturer #1: Texas Instruments; Stellaris Class: Tempest; Part Number: LM3S3P26-IQR
footprint QFP50P1200X1200X160-64N
pins: 1 PE3, 2 PE2, 3 VDDA, 4 GNDA, 5 PE1, 6 PE0, 7 LDO, 8 PE4, 9 VDDC, 10 GND, 11 PC4, 12 VDD, 13 GND, 14 PC5, 15 PC6 (power), 16 PC7, 17 PA0/U0RX, 18 PA1/U0TX, 19 PA2/SSI0CLK, 20 PA3/SSI0FSS, 21 PA4/SSI0RX, 22 PA5/SSI0TX, 23 VDDC, 24 GND, 25 PA6, 26 PA7, 27 PB3/I2C0SDA, 28 VDD, 29 GND, 30 OSC0, 31 OSC1, 32 WAKE_N, 33 HIB_N, 34 XOSC0, 35 XOSC1, 36 GND, 37 VBAT, 38 VDDC, 39 GND, 40 RST_N, 41 PB0, 42 PB1, 43 VDD, 44 GND, 45 USB0DM, 46 USB0DP, 47 PB2/I2C0SCL, 48 USB0RBIAS, 49 PC3/TDO/SWO, 50 PC2/TDI, 51 PC1/TMS/SWDIO, 52 PC0/TCK/SWCLK, 53 GND, 54 VDDC, 55 PB7, 56 PB6, 57 PB5, 58 PB4, 59 VDD, 60 GND, 61 PD0, 62 PD1, 63 PD2, 64 PD3

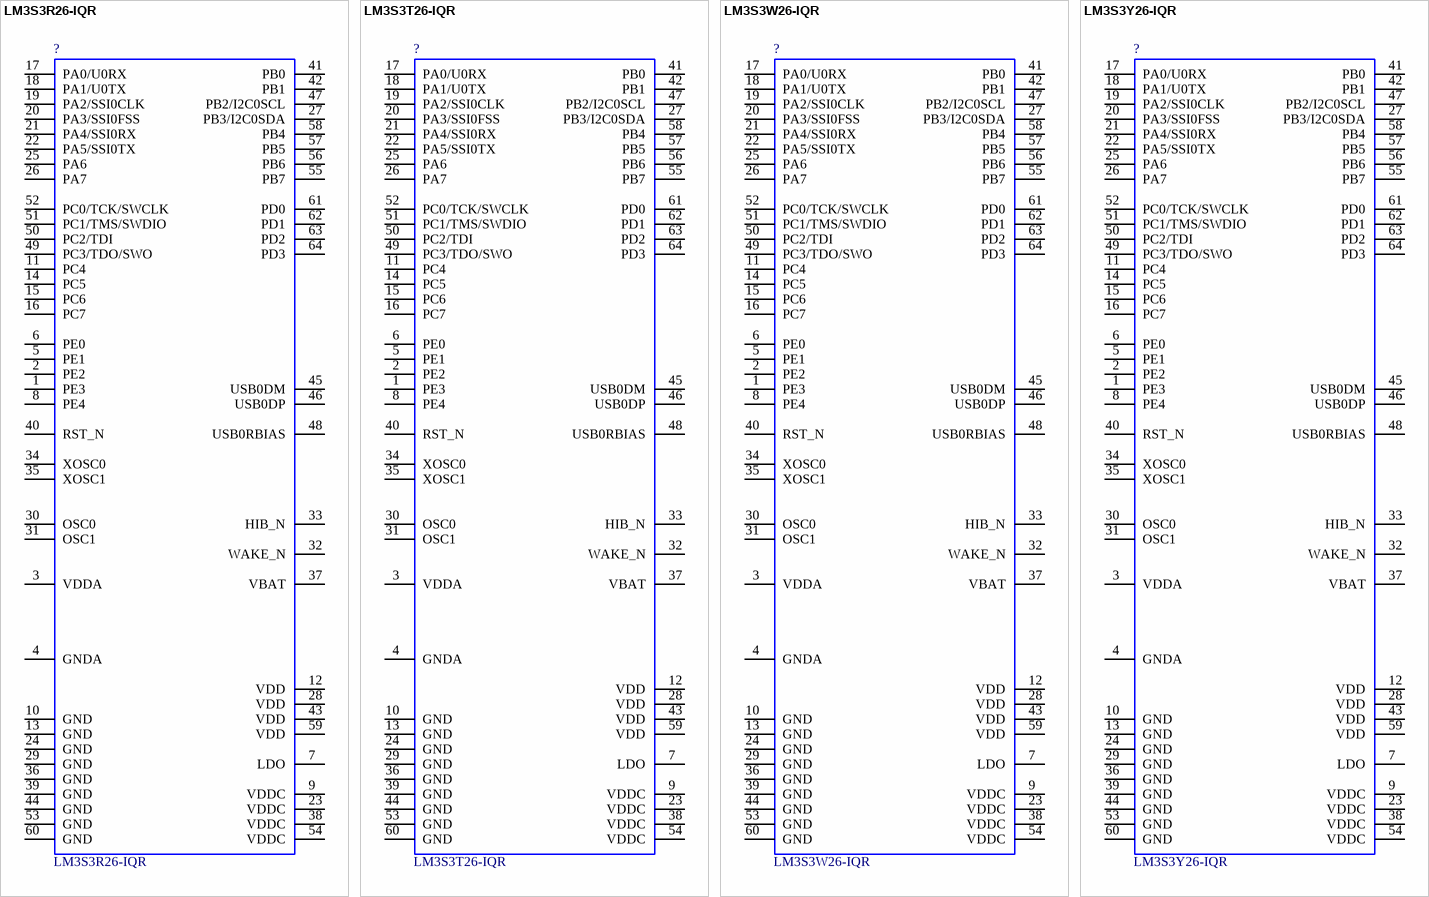
[diagram p5: symbols LM3S3R26-IQR to LM3S3Y26-IQR]

## LM3S3R26-IQR
designator ?
Stellaris ARM Cortex-M3 Microcontroller; Manufacturer #1: Texas Instruments; Stellaris Class: Tempest; Part Number: LM3S3R26-IQR
footprint QFP50P1200X1200X160-64N
pins: 1 PE3, 2 PE2, 3 VDDA, 4 GNDA, 5 PE1, 6 PE0, 7 LDO, 8 PE4, 9 VDDC, 10 GND, 11 PC4, 12 VDD, 13 GND, 14 PC5, 15 PC6 (power), 16 PC7, 17 PA0/U0RX, 18 PA1/U0TX, 19 PA2/SSI0CLK, 20 PA3/SSI0FSS, 21 PA4/SSI0RX, 22 PA5/SSI0TX, 23 VDDC, 24 GND, 25 PA6, 26 PA7, 27 PB3/I2C0SDA, 28 VDD, 29 GND, 30 OSC0, 31 OSC1, 32 WAKE_N, 33 HIB_N, 34 XOSC0, 35 XOSC1, 36 GND, 37 VBAT, 38 VDDC, 39 GND, 40 RST_N, 41 PB0, 42 PB1, 43 VDD, 44 GND, 45 USB0DM, 46 USB0DP, 47 PB2/I2C0SCL, 48 USB0RBIAS, 49 PC3/TDO/SWO, 50 PC2/TDI, 51 PC1/TMS/SWDIO, 52 PC0/TCK/SWCLK, 53 GND, 54 VDDC, 55 PB7, 56 PB6, 57 PB5, 58 PB4, 59 VDD, 60 GND, 61 PD0, 62 PD1, 63 PD2, 64 PD3

## LM3S3T26-IQR
designator ?
Stellaris ARM Cortex-M3 Microcontroller; Manufacturer #1: Texas Instruments; Stellaris Class: Tempest; Part Number: LM3S3T26-IQR
footprint QFP50P1200X1200X160-64N
pins: 1 PE3, 2 PE2, 3 VDDA, 4 GNDA, 5 PE1, 6 PE0, 7 LDO, 8 PE4, 9 VDDC, 10 GND, 11 PC4, 12 VDD, 13 GND, 14 PC5, 15 PC6 (power), 16 PC7, 17 PA0/U0RX, 18 PA1/U0TX, 19 PA2/SSI0CLK, 20 PA3/SSI0FSS, 21 PA4/SSI0RX, 22 PA5/SSI0TX, 23 VDDC, 24 GND, 25 PA6, 26 PA7, 27 PB3/I2C0SDA, 28 VDD, 29 GND, 30 OSC0, 31 OSC1, 32 WAKE_N, 33 HIB_N, 34 XOSC0, 35 XOSC1, 36 GND, 37 VBAT, 38 VDDC, 39 GND, 40 RST_N, 41 PB0, 42 PB1, 43 VDD, 44 GND, 45 USB0DM, 46 USB0DP, 47 PB2/I2C0SCL, 48 USB0RBIAS, 49 PC3/TDO/SWO, 50 PC2/TDI, 51 PC1/TMS/SWDIO, 52 PC0/TCK/SWCLK, 53 GND, 54 VDDC, 55 PB7, 56 PB6, 57 PB5, 58 PB4, 59 VDD, 60 GND, 61 PD0, 62 PD1, 63 PD2, 64 PD3

## LM3S3W26-IQR
designator ?
Stellaris ARM Cortex-M3 Microcontroller; Manufacturer #1: Texas Instruments; Stellaris Class: Tempest; Part Number: LM3S3W26-IQR
footprint QFP50P1200X1200X160-64N
pins: 1 PE3, 2 PE2, 3 VDDA, 4 GNDA, 5 PE1, 6 PE0, 7 LDO, 8 PE4, 9 VDDC, 10 GND, 11 PC4, 12 VDD, 13 GND, 14 PC5, 15 PC6 (power), 16 PC7, 17 PA0/U0RX, 18 PA1/U0TX, 19 PA2/SSI0CLK, 20 PA3/SSI0FSS, 21 PA4/SSI0RX, 22 PA5/SSI0TX, 23 VDDC, 24 GND, 25 PA6, 26 PA7, 27 PB3/I2C0SDA, 28 VDD, 29 GND, 30 OSC0, 31 OSC1, 32 WAKE_N, 33 HIB_N, 34 XOSC0, 35 XOSC1, 36 GND, 37 VBAT, 38 VDDC, 39 GND, 40 RST_N, 41 PB0, 42 PB1, 43 VDD, 44 GND, 45 USB0DM, 46 USB0DP, 47 PB2/I2C0SCL, 48 USB0RBIAS, 49 PC3/TDO/SWO, 50 PC2/TDI, 51 PC1/TMS/SWDIO, 52 PC0/TCK/SWCLK, 53 GND, 54 VDDC, 55 PB7, 56 PB6, 57 PB5, 58 PB4, 59 VDD, 60 GND, 61 PD0, 62 PD1, 63 PD2, 64 PD3

## LM3S3Y26-IQR
designator ?
Stellaris ARM Cortex-M3 Microcontroller; Manufacturer #1: Texas Instruments; Stellaris Class: Tempest; Part Number: LM3S3Y26-IQR
footprint QFP50P1200X1200X160-64N
pins: 1 PE3, 2 PE2, 3 VDDA, 4 GNDA, 5 PE1, 6 PE0, 7 LDO, 8 PE4, 9 VDDC, 10 GND, 11 PC4, 12 VDD, 13 GND, 14 PC5, 15 PC6 (power), 16 PC7, 17 PA0/U0RX, 18 PA1/U0TX, 19 PA2/SSI0CLK, 20 PA3/SSI0FSS, 21 PA4/SSI0RX, 22 PA5/SSI0TX, 23 VDDC, 24 GND, 25 PA6, 26 PA7, 27 PB3/I2C0SDA, 28 VDD, 29 GND, 30 OSC0, 31 OSC1, 32 WAKE_N, 33 HIB_N, 34 XOSC0, 35 XOSC1, 36 GND, 37 VBAT, 38 VDDC, 39 GND, 40 RST_N, 41 PB0, 42 PB1, 43 VDD, 44 GND, 45 USB0DM, 46 USB0DP, 47 PB2/I2C0SCL, 48 USB0RBIAS, 49 PC3/TDO/SWO, 50 PC2/TDI, 51 PC1/TMS/SWDIO, 52 PC0/TCK/SWCLK, 53 GND, 54 VDDC, 55 PB7, 56 PB6, 57 PB5, 58 PB4, 59 VDD, 60 GND, 61 PD0, 62 PD1, 63 PD2, 64 PD3

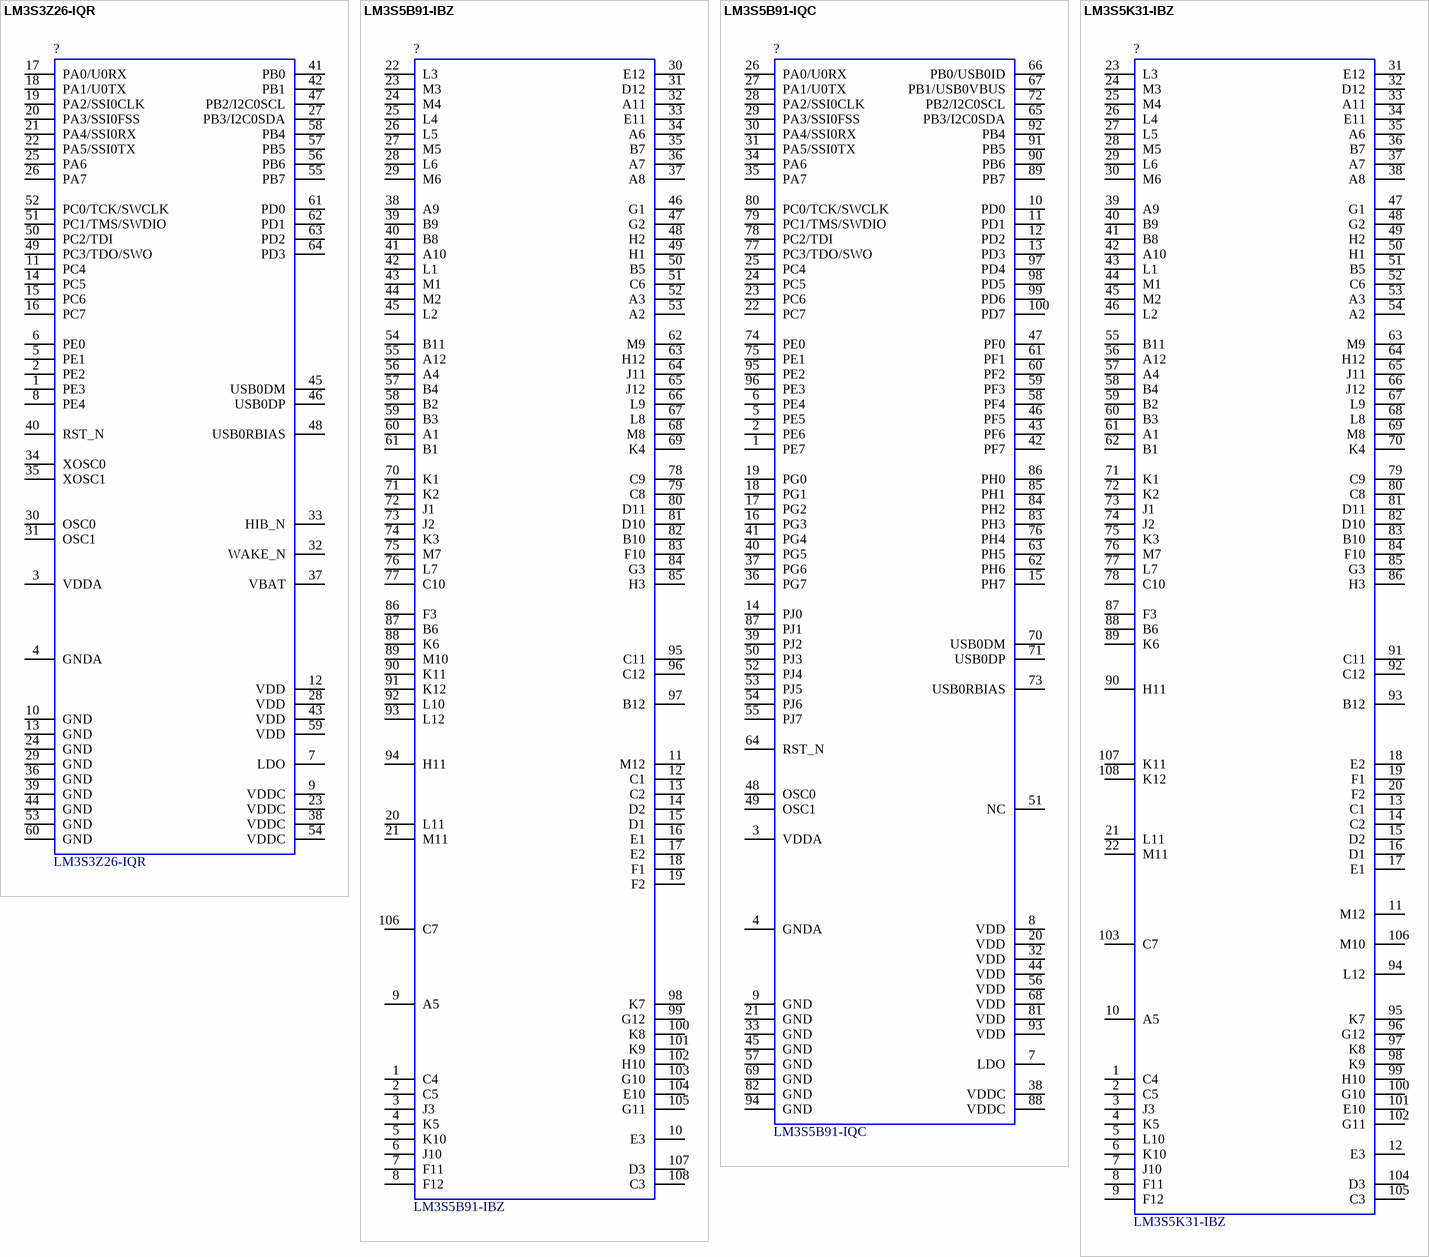
[diagram p6: symbols LM3S3Z26-IQR to LM3S5K31-IBZ]

## LM3S3Z26-IQR
designator ?
Stellaris ARM Cortex-M3 Microcontroller; Manufacturer #1: Texas Instruments; Stellaris Class: Tempest; Part Number: LM3S3Z26-IQR
footprint QFP50P1200X1200X160-64N
pins: 1 PE3, 2 PE2, 3 VDDA, 4 GNDA, 5 PE1, 6 PE0, 7 LDO, 8 PE4, 9 VDDC, 10 GND, 11 PC4, 12 VDD, 13 GND, 14 PC5, 15 PC6 (power), 16 PC7, 17 PA0/U0RX, 18 PA1/U0TX, 19 PA2/SSI0CLK, 20 PA3/SSI0FSS, 21 PA4/SSI0RX, 22 PA5/SSI0TX, 23 VDDC, 24 GND, 25 PA6, 26 PA7, 27 PB3/I2C0SDA, 28 VDD, 29 GND, 30 OSC0, 31 OSC1, 32 WAKE_N, 33 HIB_N, 34 XOSC0, 35 XOSC1, 36 GND, 37 VBAT, 38 VDDC, 39 GND, 40 RST_N, 41 PB0, 42 PB1, 43 VDD, 44 GND, 45 USB0DM, 46 USB0DP, 47 PB2/I2C0SCL, 48 USB0RBIAS, 49 PC3/TDO/SWO, 50 PC2/TDI, 51 PC1/TMS/SWDIO, 52 PC0/TCK/SWCLK, 53 GND, 54 VDDC, 55 PB7, 56 PB6, 57 PB5, 58 PB4, 59 VDD, 60 GND, 61 PD0, 62 PD1, 63 PD2, 64 PD3

## LM3S5B91-IBZ
designator ?
Stellaris ARM Cortex-M3 Microcontroller; Manufacturer #1: Texas Instruments; Stellaris Class: Tempest; Part Number: LM3S5B91-IBZ
footprint BGA108C80P12X12_1000X1000X150
pins: 1 C4, 2 C5, 3 J3, 4 K5, 5 K10, 6 J10, 7 F11, 8 F12, 9 A5, 10 E3, 11 M12, 12 C1, 13 C2, 14 D2, 15 D1, 16 E1, 17 E2, 18 F1, 19 F2, 20 L11, 21 M11, 22 L3, 23 M3, 24 M4, 25 L4, 26 L5, 27 M5, 28 L6, 29 M6, 30 E12, 31 D12, 32 A11, 33 E11, 34 A6, 35 B7, 36 A7, 37 A8, 38 A9, 39 B9, 40 B8, 41 A10, 42 L1, 43 M1, 44 M2, 45 L2, 46 G1, 47 G2, 48 H2, 49 H1, 50 B5, 51 C6, 52 A3, 53 A2, 54 B11, 55 A12, 56 A4, 57 B4, 58 B2, 59 B3, 60 A1, 61 B1, 62 M9, 63 H12, 64 J11, 65 J12, 66 L9, 67 L8, 68 M8, 69 K4, 70 K1, 71 K2, 72 J1, 73 J2, 74 K3, 75 M7, 76 L7, 77 C10, 78 C9, 79 C8, 80 D11, 81 D10, 82 B10, 83 F10, 84 G3, 85 H3, 86 F3, 87 B6, 88 K6, 89 M10, 90 K11, 91 K12, 92 L10, 93 L12, 94 H11, 95 C11, 96 C12, 97 B12, 98 K7, 99 G12, 100 K8, 101 K9, 102 H10, 103 G10, 104 E10, 105 G11, 106 C7, 107 D3, 108 C3

## LM3S5B91-IQC
designator ?
Stellaris ARM Cortex-M3 Microcontroller; Manufacturer #1: Texas Instruments; Stellaris Class: Tempest; Part Number: LM3S5B91-IQC
footprint QFP50P1600X1600X160-100N
pins: 1 PE7, 2 PE6, 3 VDDA, 4 GNDA, 5 PE5, 6 PE4, 7 LDO, 8 VDD, 9 GND, 10 PD0, 11 PD1, 12 PD2, 13 PD3, 14 PJ0, 15 PH7, 16 PG3, 17 PG2, 18 PG1, 19 PG0, 20 VDD, 21 GND, 22 PC7, 23 PC6, 24 PC5, 25 PC4, 26 PA0/U0RX, 27 PA1/U0TX, 28 PA2/SSI0CLK, 29 PA3/SSI0FSS, 30 PA4/SSI0RX, 31 PA5/SSI0TX, 32 VDD, 33 GND, 34 PA6, 35 PA7, 36 PG7, 37 PG6, 38 VDDC, 39 PJ2, 40 PG5, 41 PG4, 42 PF7, 43 PF6, 44 VDD, 45 GND, 46 PF5, 47 PF0, 48 OSC0, 49 OSC1, 50 PJ3, 51 NC, 52 PJ4, 53 PJ5, 54 PJ6, 55 PJ7, 56 VDD, 57 GND, 58 PF4, 59 PF3, 60 PF2, 61 PF1, 62 PH6, 63 PH5, 64 RST_N, 65 PB3/I2C0SDA, 66 PB0/USB0ID, 67 PB1/USB0VBUS, 68 VDD, 69 GND, 70 USB0DM, 71 USB0DP, 72 PB2/I2C0SCL, 73 USB0RBIAS, 74 PE0, 75 PE1, 76 PH4, 77 PC3/TDO/SWO, 78 PC2/TDI, 79 PC1/TMS/SWDIO, 80 PC0/TCK/SWCLK, 81 VDD, 82 GND, 83 PH3, 84 PH2, 85 PH1, 86 PH0, 87 PJ1, 88 VDDC, 89 PB7, 90 PB6, 91 PB5, 92 PB4, 93 VDD, 94 GND, 95 PE2, 96 PE3, 97 PD4, 98 PD5, 99 PD6, 100 PD7

## LM3S5K31-IBZ
designator ?
Stellaris ARM Cortex-M3 Microcontroller; Manufacturer #1: Texas Instruments; Stellaris Class: Tempest; Part Number: LM3S5K31-IBZ
footprint BGA108C80P12X12_1000X1000X150
pins: 1 C4, 2 C5, 3 J3, 4 K5, 5 L10, 6 K10, 7 J10, 8 F11, 9 F12, 10 A5, 11 M12, 12 E3, 13 C1, 14 C2, 15 D2, 16 D1, 17 E1, 18 E2, 19 F1, 20 F2, 21 L11, 22 M11, 23 L3, 24 M3, 25 M4, 26 L4, 27 L5, 28 M5, 29 L6, 30 M6, 31 E12, 32 D12, 33 A11, 34 E11, 35 A6, 36 B7, 37 A7, 38 A8, 39 A9, 40 B9, 41 B8, 42 A10, 43 L1, 44 M1, 45 M2, 46 L2, 47 G1, 48 G2, 49 H2, 50 H1, 51 B5, 52 C6, 53 A3, 54 A2, 55 B11, 56 A12, 57 A4, 58 B4, 59 B2, 60 B3, 61 A1, 62 B1, 63 M9, 64 H12, 65 J11, 66 J12, 67 L9, 68 L8, 69 M8, 70 K4, 71 K1, 72 K2, 73 J1, 74 J2, 75 K3, 76 M7, 77 L7, 78 C10, 79 C9, 80 C8, 81 D11, 82 D10, 83 B10, 84 F10, 85 G3, 86 H3, 87 F3, 88 B6, 89 K6, 90 H11, 91 C11, 92 C12, 93 B12, 94 L12, 95 K7, 96 G12, 97 K8, 98 K9, 99 H10, 100 G10, 101 E10, 102 G11, 103 C7, 104 D3, 105 C3, 106 M10, 107 K11, 108 K12

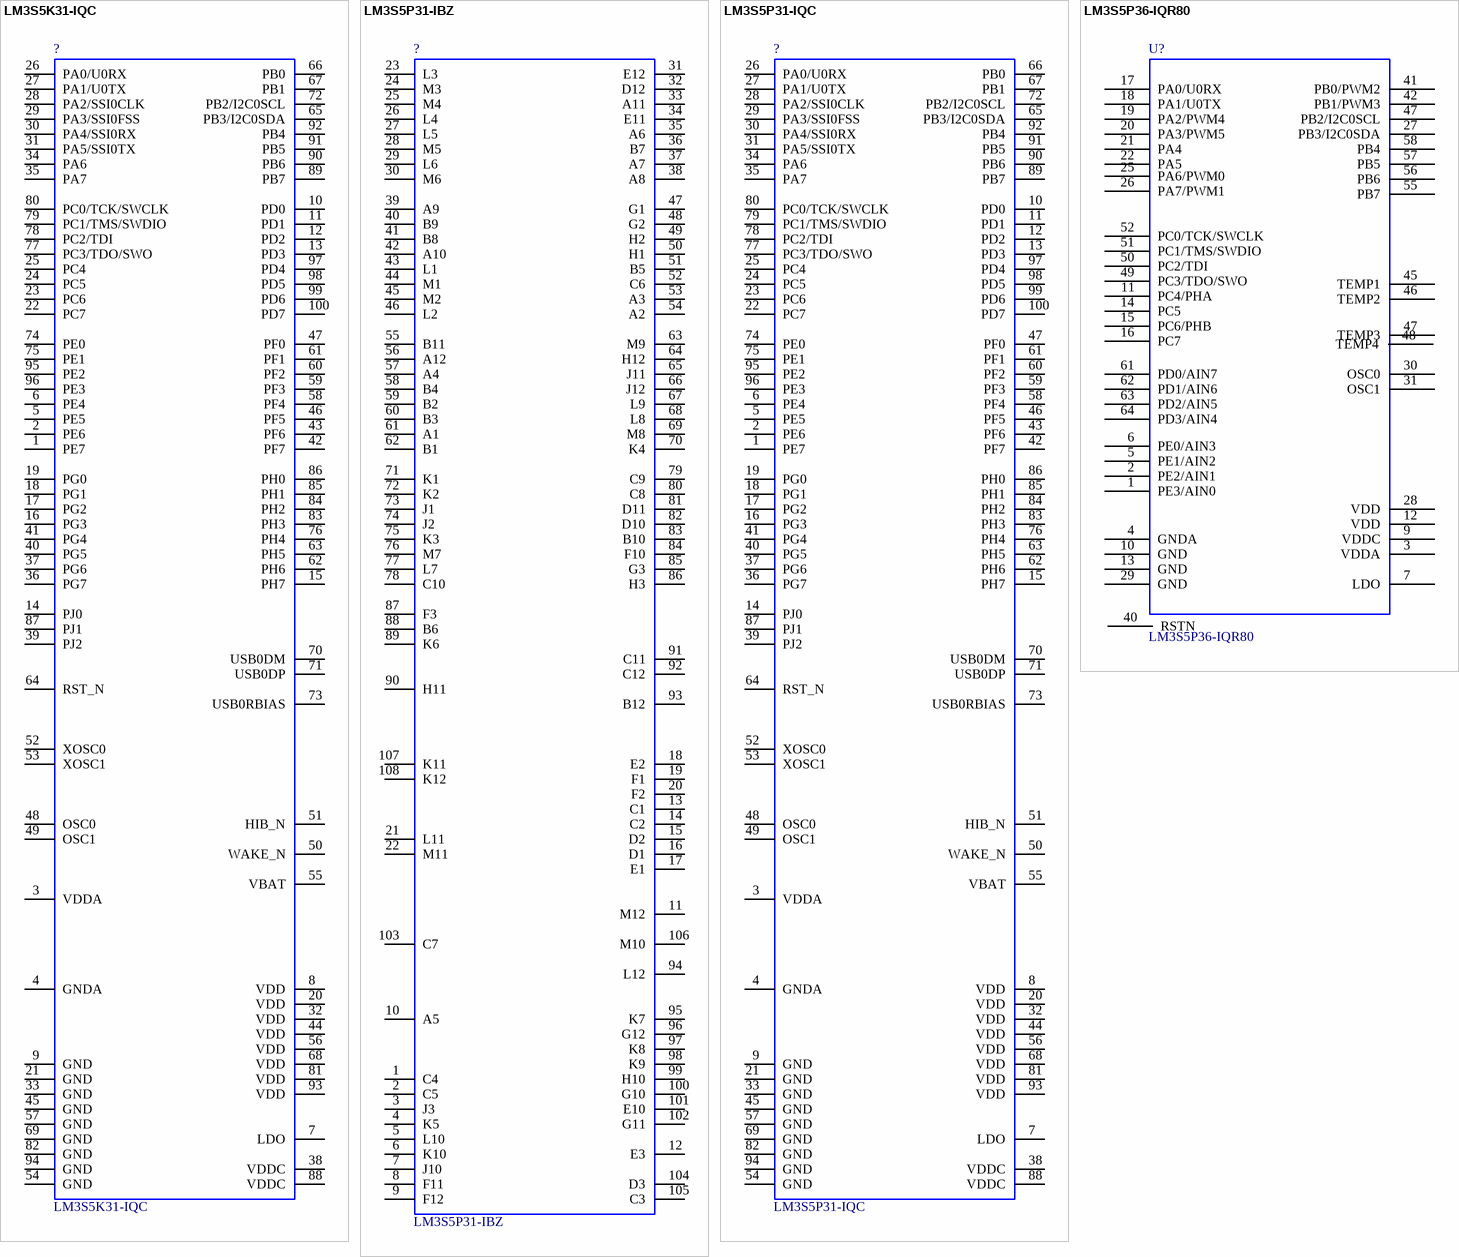
[diagram p7: symbols LM3S5K31-IQC to LM3S5P36-IQR80]

## LM3S5K31-IQC
designator ?
Stellaris ARM Cortex-M3 Microcontroller; Manufacturer #1: Texas Instruments; Stellaris Class: Tempest; Part Number: LM3S5K31-IQC
footprint QFP50P1600X1600X160-100N
pins: 1 PE7, 2 PE6, 3 VDDA, 4 GNDA, 5 PE5, 6 PE4, 7 LDO, 8 VDD, 9 GND, 10 PD0, 11 PD1, 12 PD2, 13 PD3, 14 PJ0, 15 PH7, 16 PG3, 17 PG2, 18 PG1, 19 PG0, 20 VDD, 21 GND, 22 PC7, 23 PC6, 24 PC5, 25 PC4, 26 PA0/U0RX, 27 PA1/U0TX, 28 PA2/SSI0CLK, 29 PA3/SSI0FSS, 30 PA4/SSI0RX, 31 PA5/SSI0TX, 32 VDD, 33 GND, 34 PA6, 35 PA7, 36 PG7, 37 PG6, 38 VDDC, 39 PJ2, 40 PG5, 41 PG4, 42 PF7, 43 PF6, 44 VDD, 45 GND, 46 PF5, 47 PF0, 48 OSC0, 49 OSC1, 50 WAKE_N, 51 HIB_N, 52 XOSC0, 53 XOSC1, 54 GND, 55 VBAT, 56 VDD, 57 GND, 58 PF4, 59 PF3, 60 PF2, 61 PF1, 62 PH6, 63 PH5, 64 RST_N, 65 PB3/I2C0SDA, 66 PB0, 67 PB1, 68 VDD, 69 GND, 70 USB0DM, 71 USB0DP, 72 PB2/I2C0SCL, 73 USB0RBIAS, 74 PE0, 75 PE1, 76 PH4, 77 PC3/TDO/SWO, 78 PC2/TDI, 79 PC1/TMS/SWDIO, 80 PC0/TCK/SWCLK, 81 VDD, 82 GND, 83 PH3, 84 PH2, 85 PH1, 86 PH0, 87 PJ1, 88 VDDC, 89 PB7, 90 PB6, 91 PB5, 92 PB4, 93 VDD, 94 GND, 95 PE2, 96 PE3, 97 PD4, 98 PD5, 99 PD6, 100 PD7

## LM3S5P31-IBZ
designator ?
Stellaris ARM Cortex-M3 Microcontroller; Manufacturer #1: Texas Instruments; Stellaris Class: Tempest; Part Number: LM3S5P31-IBZ
footprint BGA108C80P12X12_1000X1000X150
pins: 1 C4, 2 C5, 3 J3, 4 K5, 5 L10, 6 K10, 7 J10, 8 F11, 9 F12, 10 A5, 11 M12, 12 E3, 13 C1, 14 C2, 15 D2, 16 D1, 17 E1, 18 E2, 19 F1, 20 F2, 21 L11, 22 M11, 23 L3, 24 M3, 25 M4, 26 L4, 27 L5, 28 M5, 29 L6, 30 M6, 31 E12, 32 D12, 33 A11, 34 E11, 35 A6, 36 B7, 37 A7, 38 A8, 39 A9, 40 B9, 41 B8, 42 A10, 43 L1, 44 M1, 45 M2, 46 L2, 47 G1, 48 G2, 49 H2, 50 H1, 51 B5, 52 C6, 53 A3, 54 A2, 55 B11, 56 A12, 57 A4, 58 B4, 59 B2, 60 B3, 61 A1, 62 B1, 63 M9, 64 H12, 65 J11, 66 J12, 67 L9, 68 L8, 69 M8, 70 K4, 71 K1, 72 K2, 73 J1, 74 J2, 75 K3, 76 M7, 77 L7, 78 C10, 79 C9, 80 C8, 81 D11, 82 D10, 83 B10, 84 F10, 85 G3, 86 H3, 87 F3, 88 B6, 89 K6, 90 H11, 91 C11, 92 C12, 93 B12, 94 L12, 95 K7, 96 G12, 97 K8, 98 K9, 99 H10, 100 G10, 101 E10, 102 G11, 103 C7, 104 D3, 105 C3, 106 M10, 107 K11, 108 K12

## LM3S5P31-IQC
designator ?
Stellaris ARM Cortex-M3 Microcontroller; Manufacturer #1: Texas Instruments; Stellaris Class: Tempest; Part Number: LM3S5P31-IQC
footprint QFP50P1600X1600X160-100N
pins: 1 PE7, 2 PE6, 3 VDDA, 4 GNDA, 5 PE5, 6 PE4, 7 LDO, 8 VDD, 9 GND, 10 PD0, 11 PD1, 12 PD2, 13 PD3, 14 PJ0, 15 PH7, 16 PG3, 17 PG2, 18 PG1, 19 PG0, 20 VDD, 21 GND, 22 PC7, 23 PC6, 24 PC5, 25 PC4, 26 PA0/U0RX, 27 PA1/U0TX, 28 PA2/SSI0CLK, 29 PA3/SSI0FSS, 30 PA4/SSI0RX, 31 PA5/SSI0TX, 32 VDD, 33 GND, 34 PA6, 35 PA7, 36 PG7, 37 PG6, 38 VDDC, 39 PJ2, 40 PG5, 41 PG4, 42 PF7, 43 PF6, 44 VDD, 45 GND, 46 PF5, 47 PF0, 48 OSC0, 49 OSC1, 50 WAKE_N, 51 HIB_N, 52 XOSC0, 53 XOSC1, 54 GND, 55 VBAT, 56 VDD, 57 GND, 58 PF4, 59 PF3, 60 PF2, 61 PF1, 62 PH6, 63 PH5, 64 RST_N, 65 PB3/I2C0SDA, 66 PB0, 67 PB1, 68 VDD, 69 GND, 70 USB0DM, 71 USB0DP, 72 PB2/I2C0SCL, 73 USB0RBIAS, 74 PE0, 75 PE1, 76 PH4, 77 PC3/TDO/SWO, 78 PC2/TDI, 79 PC1/TMS/SWDIO, 80 PC0/TCK/SWCLK, 81 VDD, 82 GND, 83 PH3, 84 PH2, 85 PH1, 86 PH0, 87 PJ1, 88 VDDC, 89 PB7, 90 PB6, 91 PB5, 92 PB4, 93 VDD, 94 GND, 95 PE2, 96 PE3, 97 PD4, 98 PD5, 99 PD6, 100 PD7

## LM3S5P36-IQR80
designator U?, comment Comment_1: LM3S5P36-IQR80  (hidden comment: LM3S818)
Stellaris ARM Cortex-M3 Microcontroller; Manufacturer #1: Texas Instruments; LMI Class: Sandstorm; Designator: U; GNUM: G50-QFN48-0818-SAA; Part Number: LM3S818
footprint QFN48_7X7
footprint QFP50P900X900X160-48N
pins: 1 PE3/AIN0, 2 PE2/AIN1, 3 VDDA, 4 GNDA, 5 PE1/AIN2, 6 PE0/AIN3, 7 LDO, 9 VDDC, 10 GND, 11 PC4/PHA, 12 VDD, 13 GND, 14 PC5, 15 PC6/PHB, 16 PC7, 17 PA0/U0RX, 18 PA1/U0TX, 19 PA2/PWM4, 20 PA3/PWM5, 21 PA4, 22 PA5, 25 PA6/PWM0, 26 PA7/PWM1, 27 PB3/I2C0SDA, 28 VDD, 29 GND, 30 OSC0, 31 OSC1, 40 RSTN, 41 PB0/PWM2, 42 PB1/PWM3, 45 TEMP1, 46 TEMP2, 47 PB2/I2C0SCL, 47 TEMP3, 48 TEMP4, 49 PC3/TDO/SWO, 50 PC2/TDI, 51 PC1/TMS/SWDIO, 52 PC0/TCK/SWCLK, 55 PB7, 56 PB6, 57 PB5, 58 PB4, 61 PD0/AIN7, 62 PD1/AIN6, 63 PD2/AIN5, 64 PD3/AIN4

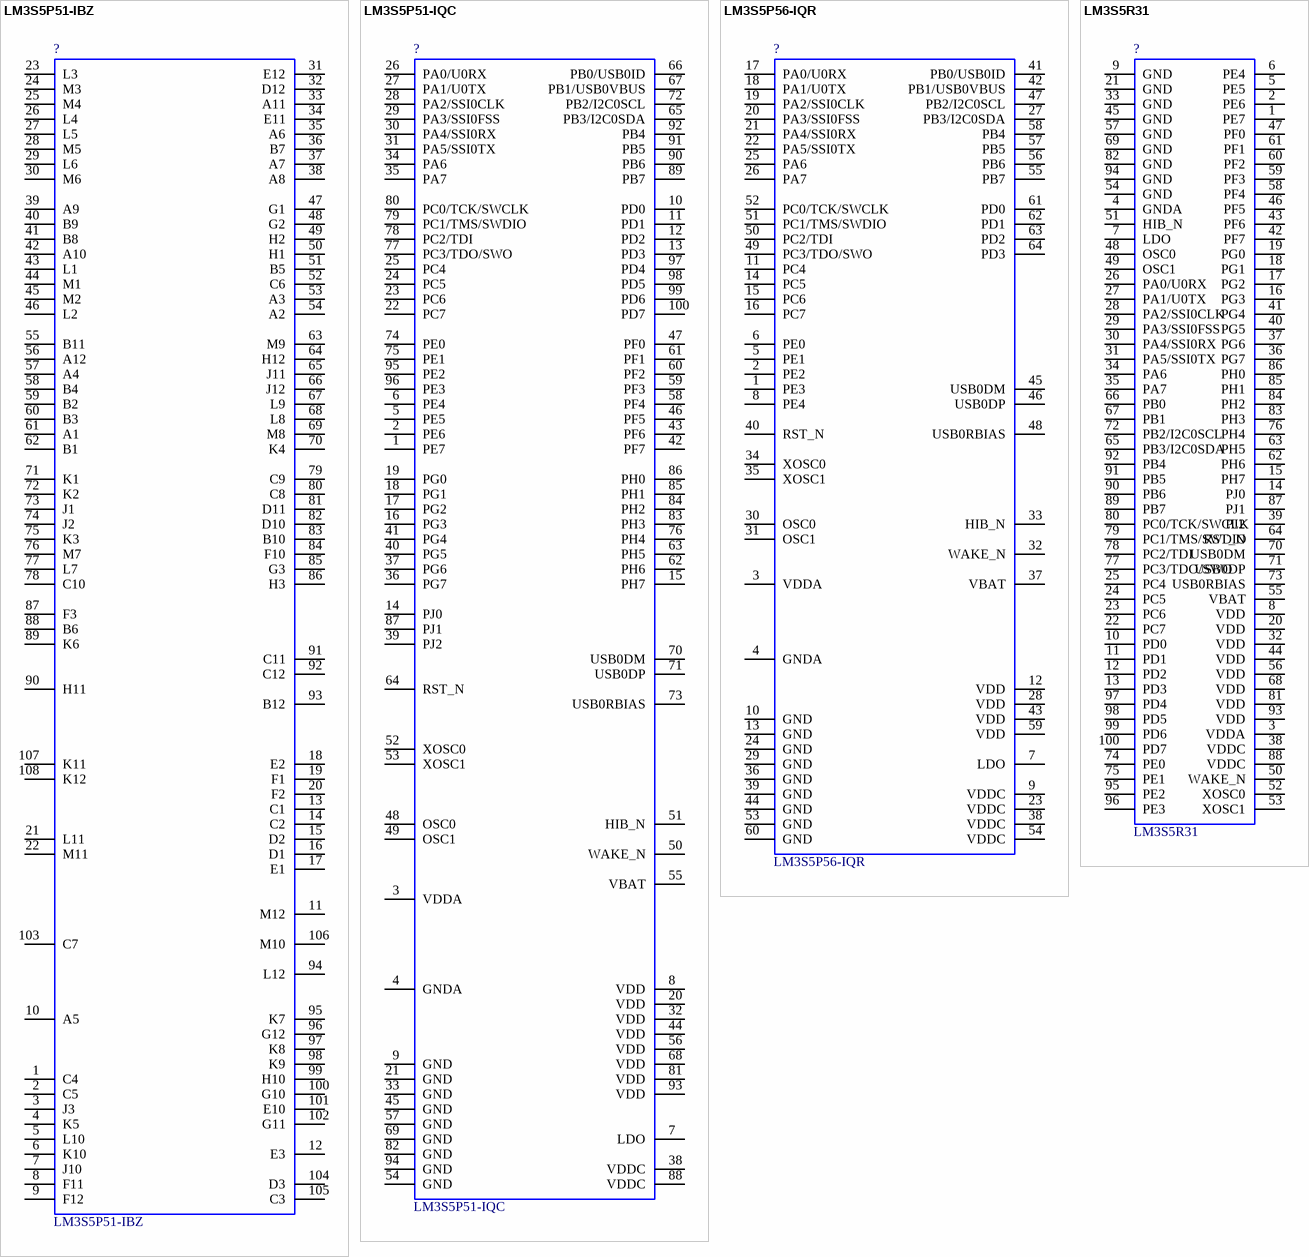
[diagram p8: symbols LM3S5P51-IBZ to LM3S5R31]

## LM3S5P51-IBZ
designator ?
Stellaris ARM Cortex-M3 Microcontroller; Manufacturer #1: Texas Instruments; Stellaris Class: Tempest; Part Number: LM3S5P51-IBZ
footprint BGA108C80P12X12_1000X1000X150
pins: 1 C4, 2 C5, 3 J3, 4 K5, 5 L10, 6 K10, 7 J10, 8 F11, 9 F12, 10 A5, 11 M12, 12 E3, 13 C1, 14 C2, 15 D2, 16 D1, 17 E1, 18 E2, 19 F1, 20 F2, 21 L11, 22 M11, 23 L3, 24 M3, 25 M4, 26 L4, 27 L5, 28 M5, 29 L6, 30 M6, 31 E12, 32 D12, 33 A11, 34 E11, 35 A6, 36 B7, 37 A7, 38 A8, 39 A9, 40 B9, 41 B8, 42 A10, 43 L1, 44 M1, 45 M2, 46 L2, 47 G1, 48 G2, 49 H2, 50 H1, 51 B5, 52 C6, 53 A3, 54 A2, 55 B11, 56 A12, 57 A4, 58 B4, 59 B2, 60 B3, 61 A1, 62 B1, 63 M9, 64 H12, 65 J11, 66 J12, 67 L9, 68 L8, 69 M8, 70 K4, 71 K1, 72 K2, 73 J1, 74 J2, 75 K3, 76 M7, 77 L7, 78 C10, 79 C9, 80 C8, 81 D11, 82 D10, 83 B10, 84 F10, 85 G3, 86 H3, 87 F3, 88 B6, 89 K6, 90 H11, 91 C11, 92 C12, 93 B12, 94 L12, 95 K7, 96 G12, 97 K8, 98 K9, 99 H10, 100 G10, 101 E10, 102 G11, 103 C7, 104 D3, 105 C3, 106 M10, 107 K11, 108 K12

## LM3S5P51-IQC
designator ?
Stellaris ARM Cortex-M3 Microcontroller; Manufacturer #1: Texas Instruments; Stellaris Class: Tempest; Part Number: LM3S5P51-IQC
footprint QFP50P1600X1600X160-100N
pins: 1 PE7, 2 PE6, 3 VDDA, 4 GNDA, 5 PE5, 6 PE4, 7 LDO, 8 VDD, 9 GND, 10 PD0, 11 PD1, 12 PD2, 13 PD3, 14 PJ0, 15 PH7, 16 PG3, 17 PG2, 18 PG1, 19 PG0, 20 VDD, 21 GND, 22 PC7, 23 PC6, 24 PC5, 25 PC4, 26 PA0/U0RX, 27 PA1/U0TX, 28 PA2/SSI0CLK, 29 PA3/SSI0FSS, 30 PA4/SSI0RX, 31 PA5/SSI0TX, 32 VDD, 33 GND, 34 PA6, 35 PA7, 36 PG7, 37 PG6, 38 VDDC, 39 PJ2, 40 PG5, 41 PG4, 42 PF7, 43 PF6, 44 VDD, 45 GND, 46 PF5, 47 PF0, 48 OSC0, 49 OSC1, 50 WAKE_N, 51 HIB_N, 52 XOSC0, 53 XOSC1, 54 GND, 55 VBAT, 56 VDD, 57 GND, 58 PF4, 59 PF3, 60 PF2, 61 PF1, 62 PH6, 63 PH5, 64 RST_N, 65 PB3/I2C0SDA, 66 PB0/USB0ID, 67 PB1/USB0VBUS, 68 VDD, 69 GND, 70 USB0DM, 71 USB0DP, 72 PB2/I2C0SCL, 73 USB0RBIAS, 74 PE0, 75 PE1, 76 PH4, 77 PC3/TDO/SWO, 78 PC2/TDI, 79 PC1/TMS/SWDIO, 80 PC0/TCK/SWCLK, 81 VDD, 82 GND, 83 PH3, 84 PH2, 85 PH1, 86 PH0, 87 PJ1, 88 VDDC, 89 PB7, 90 PB6, 91 PB5, 92 PB4, 93 VDD, 94 GND, 95 PE2, 96 PE3, 97 PD4, 98 PD5, 99 PD6, 100 PD7

## LM3S5P56-IQR
designator ?
Stellaris ARM Cortex-M3 Microcontroller; Manufacturer #1: Texas Instruments; Stellaris Class: Tempest; Part Number: LM3S5P56-IQR
footprint QFP50P1200X1200X160-64N
pins: 1 PE3, 2 PE2, 3 VDDA, 4 GNDA, 5 PE1, 6 PE0, 7 LDO, 8 PE4, 9 VDDC, 10 GND, 11 PC4, 12 VDD, 13 GND, 14 PC5, 15 PC6 (power), 16 PC7, 17 PA0/U0RX, 18 PA1/U0TX, 19 PA2/SSI0CLK, 20 PA3/SSI0FSS, 21 PA4/SSI0RX, 22 PA5/SSI0TX, 23 VDDC, 24 GND, 25 PA6, 26 PA7, 27 PB3/I2C0SDA, 28 VDD, 29 GND, 30 OSC0, 31 OSC1, 32 WAKE_N, 33 HIB_N, 34 XOSC0, 35 XOSC1, 36 GND, 37 VBAT, 38 VDDC, 39 GND, 40 RST_N, 41 PB0/USB0ID, 42 PB1/USB0VBUS, 43 VDD, 44 GND, 45 USB0DM, 46 USB0DP, 47 PB2/I2C0SCL, 48 USB0RBIAS, 49 PC3/TDO/SWO, 50 PC2/TDI, 51 PC1/TMS/SWDIO, 52 PC0/TCK/SWCLK, 53 GND, 54 VDDC, 55 PB7, 56 PB6, 57 PB5, 58 PB4, 59 VDD, 60 GND, 61 PD0, 62 PD1, 63 PD2, 64 PD3

## LM3S5R31
designator ?
footprint PCBNULL
pins: 1 PE7, 2 PE6, 3 VDDA, 4 GNDA, 5 PE5, 6 PE4, 7 LDO, 8 VDD, 9 GND, 10 PD0, 11 PD1, 12 PD2, 13 PD3, 14 PJ0, 15 PH7, 16 PG3, 17 PG2, 18 PG1, 19 PG0, 20 VDD, 21 GND, 22 PC7, 23 PC6, 24 PC5, 25 PC4, 26 PA0/U0RX, 27 PA1/U0TX, 28 PA2/SSI0CLK, 29 PA3/SSI0FSS, 30 PA4/SSI0RX, 31 PA5/SSI0TX, 32 VDD, 33 GND, 34 PA6, 35 PA7, 36 PG7, 37 PG6, 38 VDDC, 39 PJ2, 40 PG5, 41 PG4, 42 PF7, 43 PF6, 44 VDD, 45 GND, 46 PF5, 47 PF0, 48 OSC0, 49 OSC1, 50 WAKE_N, 51 HIB_N, 52 XOSC0, 53 XOSC1, 54 GND, 55 VBAT, 56 VDD, 57 GND, 58 PF4, 59 PF3, 60 PF2, 61 PF1, 62 PH6, 63 PH5, 64 RST_N, 65 PB3/I2C0SDA, 66 PB0, 67 PB1, 68 VDD, 69 GND, 70 USB0DM, 71 USB0DP, 72 PB2/I2C0SCL, 73 USB0RBIAS, 74 PE0, 75 PE1, 76 PH4, 77 PC3/TDO/SWO, 78 PC2/TDI, 79 PC1/TMS/SWDIO, 80 PC0/TCK/SWCLK, 81 VDD, 82 GND, 83 PH3, 84 PH2, 85 PH1, 86 PH0, 87 PJ1, 88 VDDC, 89 PB7, 90 PB6, 91 PB5, 92 PB4, 93 VDD, 94 GND, 95 PE2, 96 PE3, 97 PD4, 98 PD5, 99 PD6, 100 PD7

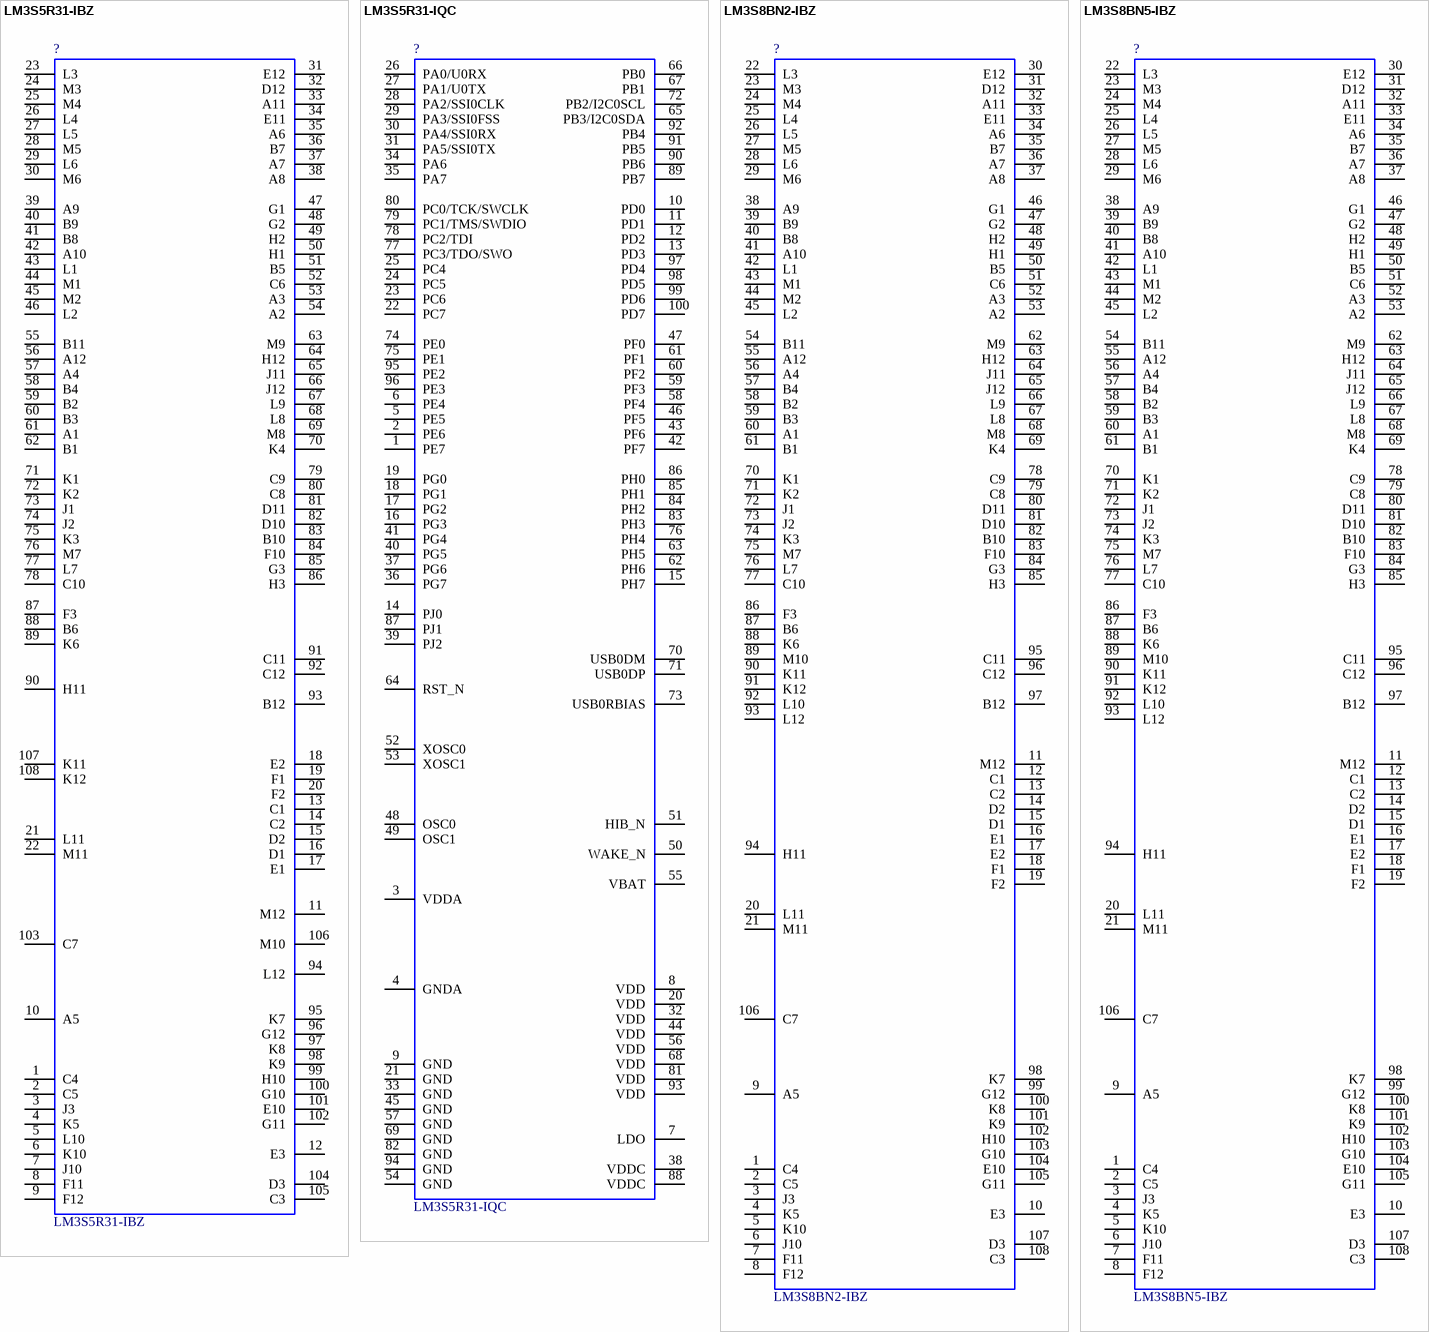
[diagram p9: symbols LM3S5R31-IBZ to LM3S8BN5-IBZ]

## LM3S5R31-IBZ
designator ?
Stellaris ARM Cortex-M3 Microcontroller; Manufacturer #1: Texas Instruments; Stellaris Class: Tempest; Part Number: LM3S5R31-IBZ
footprint BGA108C80P12X12_1000X1000X150
pins: 1 C4, 2 C5, 3 J3, 4 K5, 5 L10, 6 K10, 7 J10, 8 F11, 9 F12, 10 A5, 11 M12, 12 E3, 13 C1, 14 C2, 15 D2, 16 D1, 17 E1, 18 E2, 19 F1, 20 F2, 21 L11, 22 M11, 23 L3, 24 M3, 25 M4, 26 L4, 27 L5, 28 M5, 29 L6, 30 M6, 31 E12, 32 D12, 33 A11, 34 E11, 35 A6, 36 B7, 37 A7, 38 A8, 39 A9, 40 B9, 41 B8, 42 A10, 43 L1, 44 M1, 45 M2, 46 L2, 47 G1, 48 G2, 49 H2, 50 H1, 51 B5, 52 C6, 53 A3, 54 A2, 55 B11, 56 A12, 57 A4, 58 B4, 59 B2, 60 B3, 61 A1, 62 B1, 63 M9, 64 H12, 65 J11, 66 J12, 67 L9, 68 L8, 69 M8, 70 K4, 71 K1, 72 K2, 73 J1, 74 J2, 75 K3, 76 M7, 77 L7, 78 C10, 79 C9, 80 C8, 81 D11, 82 D10, 83 B10, 84 F10, 85 G3, 86 H3, 87 F3, 88 B6, 89 K6, 90 H11, 91 C11, 92 C12, 93 B12, 94 L12, 95 K7, 96 G12, 97 K8, 98 K9, 99 H10, 100 G10, 101 E10, 102 G11, 103 C7, 104 D3, 105 C3, 106 M10, 107 K11, 108 K12

## LM3S5R31-IQC
designator ?
Stellaris ARM Cortex-M3 Microcontroller; Manufacturer #1: Texas Instruments; Stellaris Class: Tempest; Part Number: LM3S5R31-IQC
footprint QFP50P1600X1600X160-100N
pins: 1 PE7, 2 PE6, 3 VDDA, 4 GNDA, 5 PE5, 6 PE4, 7 LDO, 8 VDD, 9 GND, 10 PD0, 11 PD1, 12 PD2, 13 PD3, 14 PJ0, 15 PH7, 16 PG3, 17 PG2, 18 PG1, 19 PG0, 20 VDD, 21 GND, 22 PC7, 23 PC6, 24 PC5, 25 PC4, 26 PA0/U0RX, 27 PA1/U0TX, 28 PA2/SSI0CLK, 29 PA3/SSI0FSS, 30 PA4/SSI0RX, 31 PA5/SSI0TX, 32 VDD, 33 GND, 34 PA6, 35 PA7, 36 PG7, 37 PG6, 38 VDDC, 39 PJ2, 40 PG5, 41 PG4, 42 PF7, 43 PF6, 44 VDD, 45 GND, 46 PF5, 47 PF0, 48 OSC0, 49 OSC1, 50 WAKE_N, 51 HIB_N, 52 XOSC0, 53 XOSC1, 54 GND, 55 VBAT, 56 VDD, 57 GND, 58 PF4, 59 PF3, 60 PF2, 61 PF1, 62 PH6, 63 PH5, 64 RST_N, 65 PB3/I2C0SDA, 66 PB0, 67 PB1, 68 VDD, 69 GND, 70 USB0DM, 71 USB0DP, 72 PB2/I2C0SCL, 73 USB0RBIAS, 74 PE0, 75 PE1, 76 PH4, 77 PC3/TDO/SWO, 78 PC2/TDI, 79 PC1/TMS/SWDIO, 80 PC0/TCK/SWCLK, 81 VDD, 82 GND, 83 PH3, 84 PH2, 85 PH1, 86 PH0, 87 PJ1, 88 VDDC, 89 PB7, 90 PB6, 91 PB5, 92 PB4, 93 VDD, 94 GND, 95 PE2, 96 PE3, 97 PD4, 98 PD5, 99 PD6, 100 PD7

## LM3S8BN2-IBZ
designator ?
Stellaris ARM Cortex-M3 Microcontroller; Manufacturer #1: Texas Instruments; Stellaris Class: Tempest; Part Number: LM3S8BN2-IBZ
footprint BGA108C80P12X12_1000X1000X150
pins: 1 C4, 2 C5, 3 J3, 4 K5, 5 K10, 6 J10, 7 F11, 8 F12, 9 A5, 10 E3, 11 M12, 12 C1, 13 C2, 14 D2, 15 D1, 16 E1, 17 E2, 18 F1, 19 F2, 20 L11, 21 M11, 22 L3, 23 M3, 24 M4, 25 L4, 26 L5, 27 M5, 28 L6, 29 M6, 30 E12, 31 D12, 32 A11, 33 E11, 34 A6, 35 B7, 36 A7, 37 A8, 38 A9, 39 B9, 40 B8, 41 A10, 42 L1, 43 M1, 44 M2, 45 L2, 46 G1, 47 G2, 48 H2, 49 H1, 50 B5, 51 C6, 52 A3, 53 A2, 54 B11, 55 A12, 56 A4, 57 B4, 58 B2, 59 B3, 60 A1, 61 B1, 62 M9, 63 H12, 64 J11, 65 J12, 66 L9, 67 L8, 68 M8, 69 K4, 70 K1, 71 K2, 72 J1, 73 J2, 74 K3, 75 M7, 76 L7, 77 C10, 78 C9, 79 C8, 80 D11, 81 D10, 82 B10, 83 F10, 84 G3, 85 H3, 86 F3, 87 B6, 88 K6, 89 M10, 90 K11, 91 K12, 92 L10, 93 L12, 94 H11, 95 C11, 96 C12, 97 B12, 98 K7, 99 G12, 100 K8, 101 K9, 102 H10, 103 G10, 104 E10, 105 G11, 106 C7, 107 D3, 108 C3

## LM3S8BN5-IBZ
designator ?
Stellaris ARM Cortex-M3 Microcontroller; Manufacturer #1: Texas Instruments; Stellaris Class: Tempest; Part Number: LM3S8BN5-IBZ
footprint BGA108C80P12X12_1000X1000X150
pins: 1 C4, 2 C5, 3 J3, 4 K5, 5 K10, 6 J10, 7 F11, 8 F12, 9 A5, 10 E3, 11 M12, 12 C1, 13 C2, 14 D2, 15 D1, 16 E1, 17 E2, 18 F1, 19 F2, 20 L11, 21 M11, 22 L3, 23 M3, 24 M4, 25 L4, 26 L5, 27 M5, 28 L6, 29 M6, 30 E12, 31 D12, 32 A11, 33 E11, 34 A6, 35 B7, 36 A7, 37 A8, 38 A9, 39 B9, 40 B8, 41 A10, 42 L1, 43 M1, 44 M2, 45 L2, 46 G1, 47 G2, 48 H2, 49 H1, 50 B5, 51 C6, 52 A3, 53 A2, 54 B11, 55 A12, 56 A4, 57 B4, 58 B2, 59 B3, 60 A1, 61 B1, 62 M9, 63 H12, 64 J11, 65 J12, 66 L9, 67 L8, 68 M8, 69 K4, 70 K1, 71 K2, 72 J1, 73 J2, 74 K3, 75 M7, 76 L7, 77 C10, 78 C9, 79 C8, 80 D11, 81 D10, 82 B10, 83 F10, 84 G3, 85 H3, 86 F3, 87 B6, 88 K6, 89 M10, 90 K11, 91 K12, 92 L10, 93 L12, 94 H11, 95 C11, 96 C12, 97 B12, 98 K7, 99 G12, 100 K8, 101 K9, 102 H10, 103 G10, 104 E10, 105 G11, 106 C7, 107 D3, 108 C3

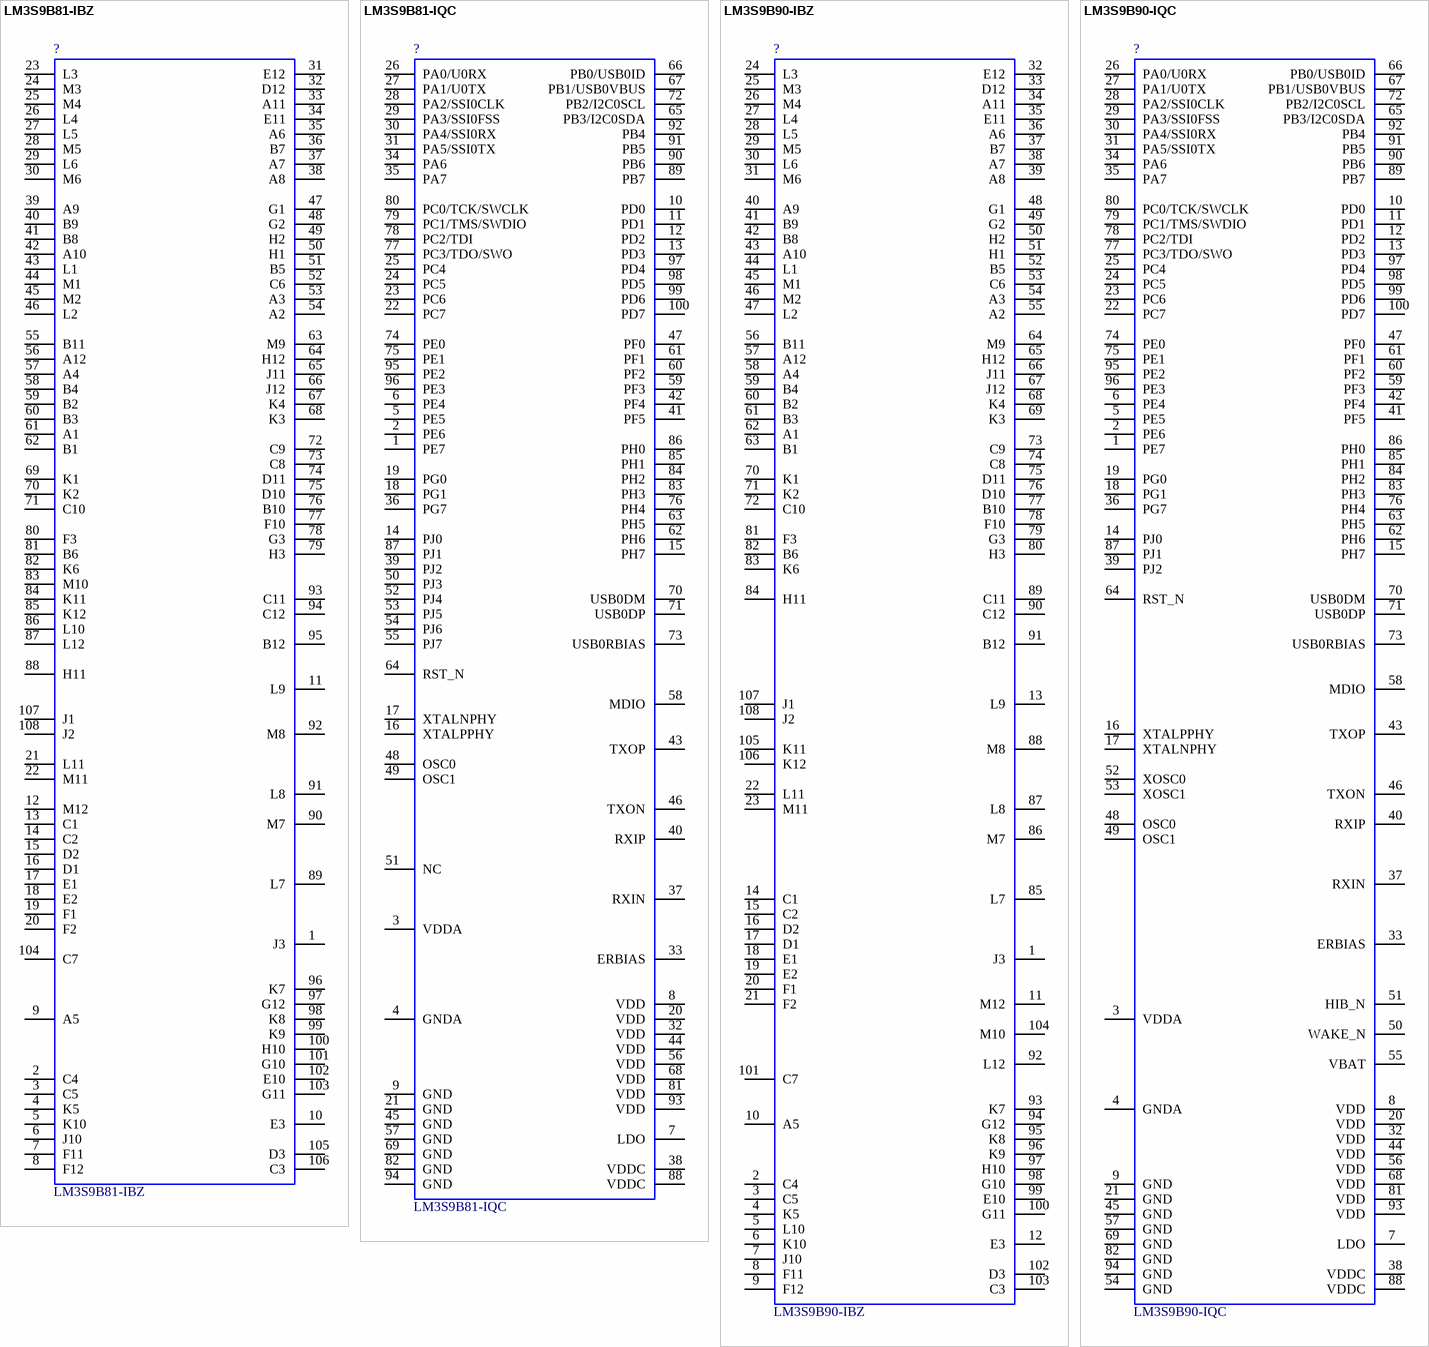
[diagram p10: symbols LM3S9B81-IBZ to LM3S9B90-IQC]

## LM3S9B81-IBZ
designator ?
footprint BGA108C80P12X12_1000X1000X150
pins: 1 J3, 2 C4, 3 C5, 4 K5, 5 K10, 6 J10, 7 F11, 8 F12, 9 A5, 10 E3, 11 L9, 12 M12, 13 C1, 14 C2, 15 D2, 16 D1, 17 E1, 18 E2, 19 F1, 20 F2, 21 L11, 22 M11, 23 L3, 24 M3, 25 M4, 26 L4, 27 L5, 28 M5, 29 L6, 30 M6, 31 E12, 32 D12, 33 A11, 34 E11, 35 A6, 36 B7, 37 A7, 38 A8, 39 A9, 40 B9, 41 B8, 42 A10, 43 L1, 44 M1, 45 M2, 46 L2, 47 G1, 48 G2, 49 H2, 50 H1, 51 B5, 52 C6, 53 A3, 54 A2, 55 B11, 56 A12, 57 A4, 58 B4, 59 B2, 60 B3, 61 A1, 62 B1, 63 M9, 64 H12, 65 J11, 66 J12, 67 K4, 68 K3, 69 K1, 70 K2, 71 C10, 72 C9, 73 C8, 74 D11, 75 D10, 76 B10, 77 F10, 78 G3, 79 H3, 80 F3, 81 B6, 82 K6, 83 M10, 84 K11, 85 K12, 86 L10, 87 L12, 88 H11, 89 L7, 90 M7, 91 L8, 92 M8, 93 C11, 94 C12, 95 B12, 96 K7, 97 G12, 98 K8, 99 K9, 100 H10, 101 G10, 102 E10, 103 G11, 104 C7, 105 D3, 106 C3, 107 J1, 108 J2

## LM3S9B81-IQC
designator ?
Stellaris ARM Cortex-M3 Microcontroller; Manufacturer #1: Texas Instruments; Stellaris Class: Tempest; Part Number: LM3S9B81-IQC
footprint QFP50P1600X1600X160-100N
pins: 1 PE7, 2 PE6, 3 VDDA, 4 GNDA, 5 PE5, 6 PE4, 7 LDO, 8 VDD, 9 GND, 10 PD0, 11 PD1, 12 PD2, 13 PD3, 14 PJ0, 15 PH7, 16 XTALPPHY, 17 XTALNPHY, 18 PG1, 19 PG0, 20 VDD, 21 GND, 22 PC7, 23 PC6, 24 PC5, 25 PC4, 26 PA0/U0RX, 27 PA1/U0TX, 28 PA2/SSI0CLK, 29 PA3/SSI0FSS, 30 PA4/SSI0RX, 31 PA5/SSI0TX, 32 VDD, 33 ERBIAS, 34 PA6, 35 PA7, 36 PG7, 37 RXIN, 38 VDDC, 39 PJ2, 40 RXIP, 41 PF5, 42 PF4, 43 TXOP, 44 VDD, 45 GND, 46 TXON, 47 PF0, 48 OSC0, 49 OSC1, 50 PJ3, 51 NC, 52 PJ4, 53 PJ5, 54 PJ6, 55 PJ7, 56 VDD, 57 GND, 58 MDIO, 59 PF3, 60 PF2, 61 PF1, 62 PH6, 63 PH5, 64 RST_N, 65 PB3/I2C0SDA, 66 PB0/USB0ID, 67 PB1/USB0VBUS, 68 VDD, 69 GND, 70 USB0DM, 71 USB0DP, 72 PB2/I2C0SCL, 73 USB0RBIAS, 74 PE0, 75 PE1, 76 PH4, 77 PC3/TDO/SWO, 78 PC2/TDI, 79 PC1/TMS/SWDIO, 80 PC0/TCK/SWCLK, 81 VDD, 82 GND, 83 PH3, 84 PH2, 85 PH1, 86 PH0, 87 PJ1, 88 VDDC, 89 PB7, 90 PB6, 91 PB5, 92 PB4, 93 VDD, 94 GND, 95 PE2, 96 PE3, 97 PD4, 98 PD5, 99 PD6, 100 PD7

## LM3S9B90-IBZ
designator ?
Stellaris ARM Cortex-M3 Microcontroller; Manufacturer #1: Texas Instruments; Stellaris Class: Tempest; Part Number: LM3S9B90-IBZ
footprint BGA108C80P12X12_1000X1000X150
pins: 1 J3, 2 C4, 3 C5, 4 K5, 5 L10, 6 K10, 7 J10, 8 F11, 9 F12, 10 A5, 11 M12, 12 E3, 13 L9, 14 C1, 15 C2, 16 D2, 17 D1, 18 E1, 19 E2, 20 F1, 21 F2, 22 L11, 23 M11, 24 L3, 25 M3, 26 M4, 27 L4, 28 L5, 29 M5, 30 L6, 31 M6, 32 E12, 33 D12, 34 A11, 35 E11, 36 A6, 37 B7, 38 A7, 39 A8, 40 A9, 41 B9, 42 B8, 43 A10, 44 L1, 45 M1, 46 M2, 47 L2, 48 G1, 49 G2, 50 H2, 51 H1, 52 B5, 53 C6, 54 A3, 55 A2, 56 B11, 57 A12, 58 A4, 59 B4, 60 B2, 61 B3, 62 A1, 63 B1, 64 M9, 65 H12, 66 J11, 67 J12, 68 K4, 69 K3, 70 K1, 71 K2, 72 C10, 73 C9, 74 C8, 75 D11, 76 D10, 77 B10, 78 F10, 79 G3, 80 H3, 81 F3, 82 B6, 83 K6, 84 H11, 85 L7, 86 M7, 87 L8, 88 M8, 89 C11, 90 C12, 91 B12, 92 L12, 93 K7, 94 G12, 95 K8, 96 K9, 97 H10, 98 G10, 99 E10, 100 G11, 101 C7, 102 D3, 103 C3, 104 M10, 105 K11, 106 K12, 107 J1, 108 J2

## LM3S9B90-IQC
designator ?
Stellaris ARM Cortex-M3 Microcontroller; Manufacturer #1: Texas Instruments; Stellaris Class: Tempest; Part Number: LM3S9B90-IQC
footprint QFP50P1600X1600X160-100N
pins: 1 PE7, 2 PE6, 3 VDDA, 4 GNDA, 5 PE5, 6 PE4, 7 LDO, 8 VDD, 9 GND, 10 PD0, 11 PD1, 12 PD2, 13 PD3, 14 PJ0, 15 PH7, 16 XTALPPHY, 17 XTALNPHY, 18 PG1, 19 PG0, 20 VDD, 21 GND, 22 PC7, 23 PC6, 24 PC5, 25 PC4, 26 PA0/U0RX, 27 PA1/U0TX, 28 PA2/SSI0CLK, 29 PA3/SSI0FSS, 30 PA4/SSI0RX, 31 PA5/SSI0TX, 32 VDD, 33 ERBIAS, 34 PA6, 35 PA7, 36 PG7, 37 RXIN, 38 VDDC, 39 PJ2, 40 RXIP, 41 PF5, 42 PF4, 43 TXOP, 44 VDD, 45 GND, 46 TXON, 47 PF0, 48 OSC0, 49 OSC1, 50 WAKE_N, 51 HIB_N, 52 XOSC0, 53 XOSC1, 54 GND, 55 VBAT, 56 VDD, 57 GND, 58 MDIO, 59 PF3, 60 PF2, 61 PF1, 62 PH6, 63 PH5, 64 RST_N, 65 PB3/I2C0SDA, 66 PB0/USB0ID, 67 PB1/USB0VBUS, 68 VDD, 69 GND, 70 USB0DM, 71 USB0DP, 72 PB2/I2C0SCL, 73 USB0RBIAS, 74 PE0, 75 PE1, 76 PH4, 77 PC3/TDO/SWO, 78 PC2/TDI, 79 PC1/TMS/SWDIO, 80 PC0/TCK/SWCLK, 81 VDD, 82 GND, 83 PH3, 84 PH2, 85 PH1, 86 PH0, 87 PJ1, 88 VDDC, 89 PB7, 90 PB6, 91 PB5, 92 PB4, 93 VDD, 94 GND, 95 PE2, 96 PE3, 97 PD4, 98 PD5, 99 PD6, 100 PD7

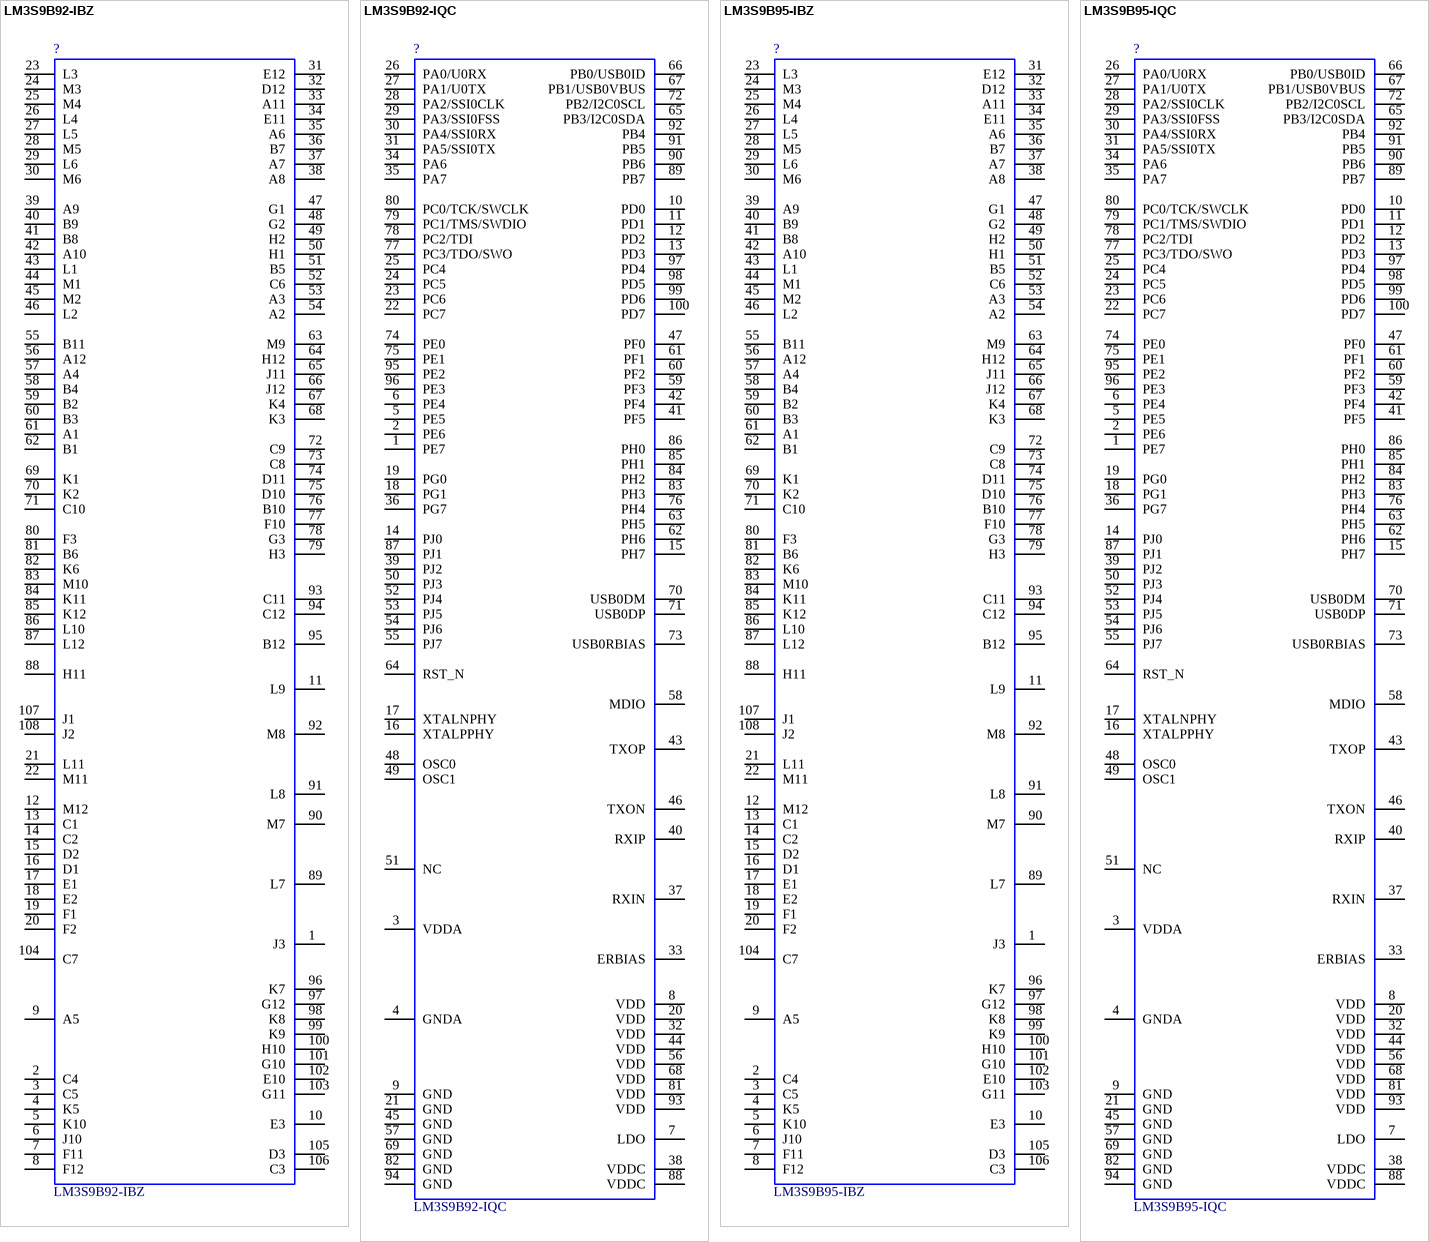
[diagram p11: symbols LM3S9B92-IBZ to LM3S9B95-IQC]

## LM3S9B92-IBZ
designator ?
Stellaris ARM Cortex-M3 Microcontroller; Manufacturer #1: Texas Instruments; Stellaris Class: Tempest; Part Number: LM3S9B92-IBZ
footprint BGA108C80P12X12_1000X1000X150
pins: 1 J3, 2 C4, 3 C5, 4 K5, 5 K10, 6 J10, 7 F11, 8 F12, 9 A5, 10 E3, 11 L9, 12 M12, 13 C1, 14 C2, 15 D2, 16 D1, 17 E1, 18 E2, 19 F1, 20 F2, 21 L11, 22 M11, 23 L3, 24 M3, 25 M4, 26 L4, 27 L5, 28 M5, 29 L6, 30 M6, 31 E12, 32 D12, 33 A11, 34 E11, 35 A6, 36 B7, 37 A7, 38 A8, 39 A9, 40 B9, 41 B8, 42 A10, 43 L1, 44 M1, 45 M2, 46 L2, 47 G1, 48 G2, 49 H2, 50 H1, 51 B5, 52 C6, 53 A3, 54 A2, 55 B11, 56 A12, 57 A4, 58 B4, 59 B2, 60 B3, 61 A1, 62 B1, 63 M9, 64 H12, 65 J11, 66 J12, 67 K4, 68 K3, 69 K1, 70 K2, 71 C10, 72 C9, 73 C8, 74 D11, 75 D10, 76 B10, 77 F10, 78 G3, 79 H3, 80 F3, 81 B6, 82 K6, 83 M10, 84 K11, 85 K12, 86 L10, 87 L12, 88 H11, 89 L7, 90 M7, 91 L8, 92 M8, 93 C11, 94 C12, 95 B12, 96 K7, 97 G12, 98 K8, 99 K9, 100 H10, 101 G10, 102 E10, 103 G11, 104 C7, 105 D3, 106 C3, 107 J1, 108 J2

## LM3S9B92-IQC
designator ?
Stellaris ARM Cortex-M3 Microcontroller; Manufacturer #1: Texas Instruments; Stellaris Class: Tempest; Part Number: LM3S9B92-IQC
footprint QFP50P1600X1600X160-100N
pins: 1 PE7, 2 PE6, 3 VDDA, 4 GNDA, 5 PE5, 6 PE4, 7 LDO, 8 VDD, 9 GND, 10 PD0, 11 PD1, 12 PD2, 13 PD3, 14 PJ0, 15 PH7, 16 XTALPPHY, 17 XTALNPHY, 18 PG1, 19 PG0, 20 VDD, 21 GND, 22 PC7, 23 PC6, 24 PC5, 25 PC4, 26 PA0/U0RX, 27 PA1/U0TX, 28 PA2/SSI0CLK, 29 PA3/SSI0FSS, 30 PA4/SSI0RX, 31 PA5/SSI0TX, 32 VDD, 33 ERBIAS, 34 PA6, 35 PA7, 36 PG7, 37 RXIN, 38 VDDC, 39 PJ2, 40 RXIP, 41 PF5, 42 PF4, 43 TXOP, 44 VDD, 45 GND, 46 TXON, 47 PF0, 48 OSC0, 49 OSC1, 50 PJ3, 51 NC, 52 PJ4, 53 PJ5, 54 PJ6, 55 PJ7, 56 VDD, 57 GND, 58 MDIO, 59 PF3, 60 PF2, 61 PF1, 62 PH6, 63 PH5, 64 RST_N, 65 PB3/I2C0SDA, 66 PB0/USB0ID, 67 PB1/USB0VBUS, 68 VDD, 69 GND, 70 USB0DM, 71 USB0DP, 72 PB2/I2C0SCL, 73 USB0RBIAS, 74 PE0, 75 PE1, 76 PH4, 77 PC3/TDO/SWO, 78 PC2/TDI, 79 PC1/TMS/SWDIO, 80 PC0/TCK/SWCLK, 81 VDD, 82 GND, 83 PH3, 84 PH2, 85 PH1, 86 PH0, 87 PJ1, 88 VDDC, 89 PB7, 90 PB6, 91 PB5, 92 PB4, 93 VDD, 94 GND, 95 PE2, 96 PE3, 97 PD4, 98 PD5, 99 PD6, 100 PD7

## LM3S9B95-IBZ
designator ?
Stellaris ARM Cortex-M3 Microcontroller; Manufacturer #1: Texas Instruments; Stellaris Class: Tempest; Part Number: LM3S9B95-IBZ
footprint BGA108C80P12X12_1000X1000X150
pins: 1 J3, 2 C4, 3 C5, 4 K5, 5 K10, 6 J10, 7 F11, 8 F12, 9 A5, 10 E3, 11 L9, 12 M12, 13 C1, 14 C2, 15 D2, 16 D1, 17 E1, 18 E2, 19 F1, 20 F2, 21 L11, 22 M11, 23 L3, 24 M3, 25 M4, 26 L4, 27 L5, 28 M5, 29 L6, 30 M6, 31 E12, 32 D12, 33 A11, 34 E11, 35 A6, 36 B7, 37 A7, 38 A8, 39 A9, 40 B9, 41 B8, 42 A10, 43 L1, 44 M1, 45 M2, 46 L2, 47 G1, 48 G2, 49 H2, 50 H1, 51 B5, 52 C6, 53 A3, 54 A2, 55 B11, 56 A12, 57 A4, 58 B4, 59 B2, 60 B3, 61 A1, 62 B1, 63 M9, 64 H12, 65 J11, 66 J12, 67 K4, 68 K3, 69 K1, 70 K2, 71 C10, 72 C9, 73 C8, 74 D11, 75 D10, 76 B10, 77 F10, 78 G3, 79 H3, 80 F3, 81 B6, 82 K6, 83 M10, 84 K11, 85 K12, 86 L10, 87 L12, 88 H11, 89 L7, 90 M7, 91 L8, 92 M8, 93 C11, 94 C12, 95 B12, 96 K7, 97 G12, 98 K8, 99 K9, 100 H10, 101 G10, 102 E10, 103 G11, 104 C7, 105 D3, 106 C3, 107 J1, 108 J2

## LM3S9B95-IQC
designator ?
Stellaris ARM Cortex-M3 Microcontroller; Manufacturer #1: Texas Instruments; Stellaris Class: Tempest; Part Number: LM3S9B95-IQC
footprint QFP50P1600X1600X160-100N
pins: 1 PE7, 2 PE6, 3 VDDA, 4 GNDA, 5 PE5, 6 PE4, 7 LDO, 8 VDD, 9 GND, 10 PD0, 11 PD1, 12 PD2, 13 PD3, 14 PJ0, 15 PH7, 16 XTALPPHY, 17 XTALNPHY, 18 PG1, 19 PG0, 20 VDD, 21 GND, 22 PC7, 23 PC6, 24 PC5, 25 PC4, 26 PA0/U0RX, 27 PA1/U0TX, 28 PA2/SSI0CLK, 29 PA3/SSI0FSS, 30 PA4/SSI0RX, 31 PA5/SSI0TX, 32 VDD, 33 ERBIAS, 34 PA6, 35 PA7, 36 PG7, 37 RXIN, 38 VDDC, 39 PJ2, 40 RXIP, 41 PF5, 42 PF4, 43 TXOP, 44 VDD, 45 GND, 46 TXON, 47 PF0, 48 OSC0, 49 OSC1, 50 PJ3, 51 NC, 52 PJ4, 53 PJ5, 54 PJ6, 55 PJ7, 56 VDD, 57 GND, 58 MDIO, 59 PF3, 60 PF2, 61 PF1, 62 PH6, 63 PH5, 64 RST_N, 65 PB3/I2C0SDA, 66 PB0/USB0ID, 67 PB1/USB0VBUS, 68 VDD, 69 GND, 70 USB0DM, 71 USB0DP, 72 PB2/I2C0SCL, 73 USB0RBIAS, 74 PE0, 75 PE1, 76 PH4, 77 PC3/TDO/SWO, 78 PC2/TDI, 79 PC1/TMS/SWDIO, 80 PC0/TCK/SWCLK, 81 VDD, 82 GND, 83 PH3, 84 PH2, 85 PH1, 86 PH0, 87 PJ1, 88 VDDC, 89 PB7, 90 PB6, 91 PB5, 92 PB4, 93 VDD, 94 GND, 95 PE2, 96 PE3, 97 PD4, 98 PD5, 99 PD6, 100 PD7

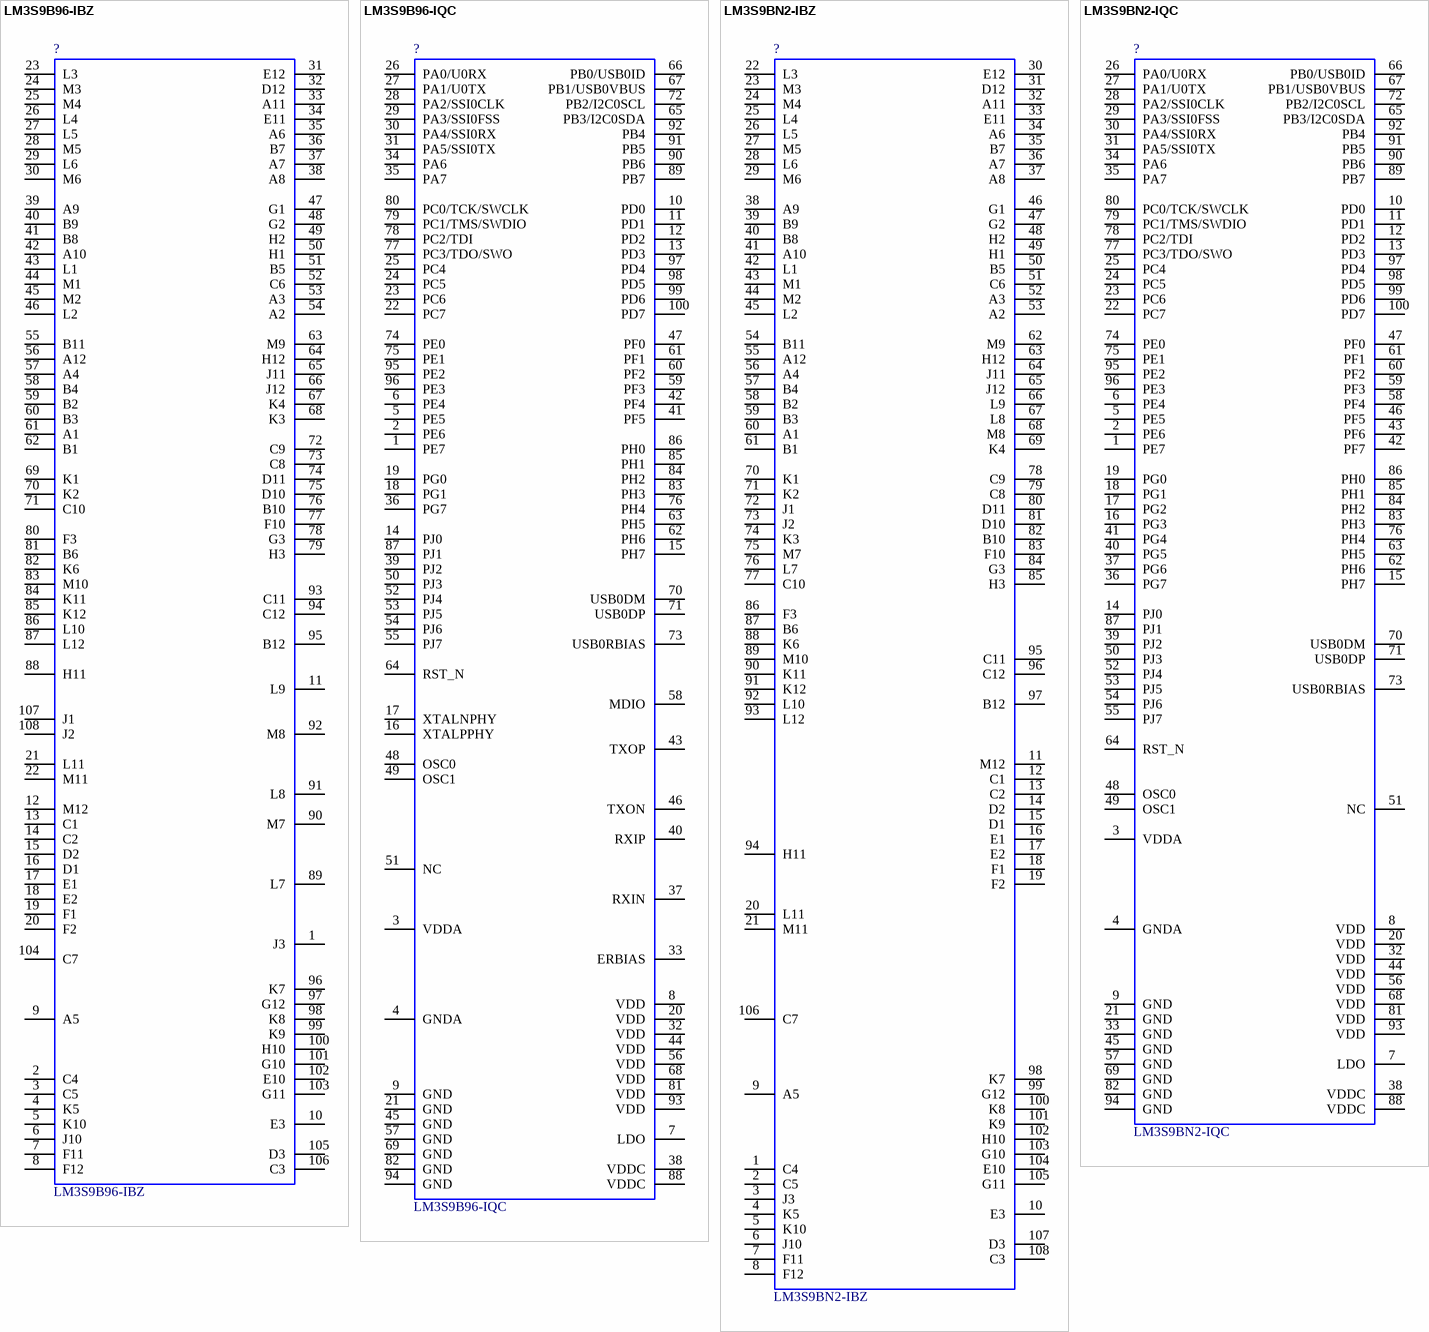
[diagram p12: symbols LM3S9B96-IBZ to LM3S9BN2-IQC]

## LM3S9B96-IBZ
designator ?
Stellaris ARM Cortex-M3 Microcontroller; Manufacturer #1: Texas Instruments; Stellaris Class: Tempest; Part Number: LM3S9B96-IBZ
footprint BGA108C80P12X12_1000X1000X150
pins: 1 J3, 2 C4, 3 C5, 4 K5, 5 K10, 6 J10, 7 F11, 8 F12, 9 A5, 10 E3, 11 L9, 12 M12, 13 C1, 14 C2, 15 D2, 16 D1, 17 E1, 18 E2, 19 F1, 20 F2, 21 L11, 22 M11, 23 L3, 24 M3, 25 M4, 26 L4, 27 L5, 28 M5, 29 L6, 30 M6, 31 E12, 32 D12, 33 A11, 34 E11, 35 A6, 36 B7, 37 A7, 38 A8, 39 A9, 40 B9, 41 B8, 42 A10, 43 L1, 44 M1, 45 M2, 46 L2, 47 G1, 48 G2, 49 H2, 50 H1, 51 B5, 52 C6, 53 A3, 54 A2, 55 B11, 56 A12, 57 A4, 58 B4, 59 B2, 60 B3, 61 A1, 62 B1, 63 M9, 64 H12, 65 J11, 66 J12, 67 K4, 68 K3, 69 K1, 70 K2, 71 C10, 72 C9, 73 C8, 74 D11, 75 D10, 76 B10, 77 F10, 78 G3, 79 H3, 80 F3, 81 B6, 82 K6, 83 M10, 84 K11, 85 K12, 86 L10, 87 L12, 88 H11, 89 L7, 90 M7, 91 L8, 92 M8, 93 C11, 94 C12, 95 B12, 96 K7, 97 G12, 98 K8, 99 K9, 100 H10, 101 G10, 102 E10, 103 G11, 104 C7, 105 D3, 106 C3, 107 J1, 108 J2

## LM3S9B96-IQC
designator ?
Stellaris ARM Cortex-M3 Microcontroller; Manufacturer #1: Texas Instruments; Stellaris Class: Tempest; Part Number: LM3S9B96-IQC
footprint QFP50P1600X1600X160-100N
pins: 1 PE7, 2 PE6, 3 VDDA, 4 GNDA, 5 PE5, 6 PE4, 7 LDO, 8 VDD, 9 GND, 10 PD0, 11 PD1, 12 PD2, 13 PD3, 14 PJ0, 15 PH7, 16 XTALPPHY, 17 XTALNPHY, 18 PG1, 19 PG0, 20 VDD, 21 GND, 22 PC7, 23 PC6, 24 PC5, 25 PC4, 26 PA0/U0RX, 27 PA1/U0TX, 28 PA2/SSI0CLK, 29 PA3/SSI0FSS, 30 PA4/SSI0RX, 31 PA5/SSI0TX, 32 VDD, 33 ERBIAS, 34 PA6, 35 PA7, 36 PG7, 37 RXIN, 38 VDDC, 39 PJ2, 40 RXIP, 41 PF5, 42 PF4, 43 TXOP, 44 VDD, 45 GND, 46 TXON, 47 PF0, 48 OSC0, 49 OSC1, 50 PJ3, 51 NC, 52 PJ4, 53 PJ5, 54 PJ6, 55 PJ7, 56 VDD, 57 GND, 58 MDIO, 59 PF3, 60 PF2, 61 PF1, 62 PH6, 63 PH5, 64 RST_N, 65 PB3/I2C0SDA, 66 PB0/USB0ID, 67 PB1/USB0VBUS, 68 VDD, 69 GND, 70 USB0DM, 71 USB0DP, 72 PB2/I2C0SCL, 73 USB0RBIAS, 74 PE0, 75 PE1, 76 PH4, 77 PC3/TDO/SWO, 78 PC2/TDI, 79 PC1/TMS/SWDIO, 80 PC0/TCK/SWCLK, 81 VDD, 82 GND, 83 PH3, 84 PH2, 85 PH1, 86 PH0, 87 PJ1, 88 VDDC, 89 PB7, 90 PB6, 91 PB5, 92 PB4, 93 VDD, 94 GND, 95 PE2, 96 PE3, 97 PD4, 98 PD5, 99 PD6, 100 PD7